# Altium integrated library Motorola Microcontroller 32-Bit.IntLib: 337 symbols (part 14 of 29)
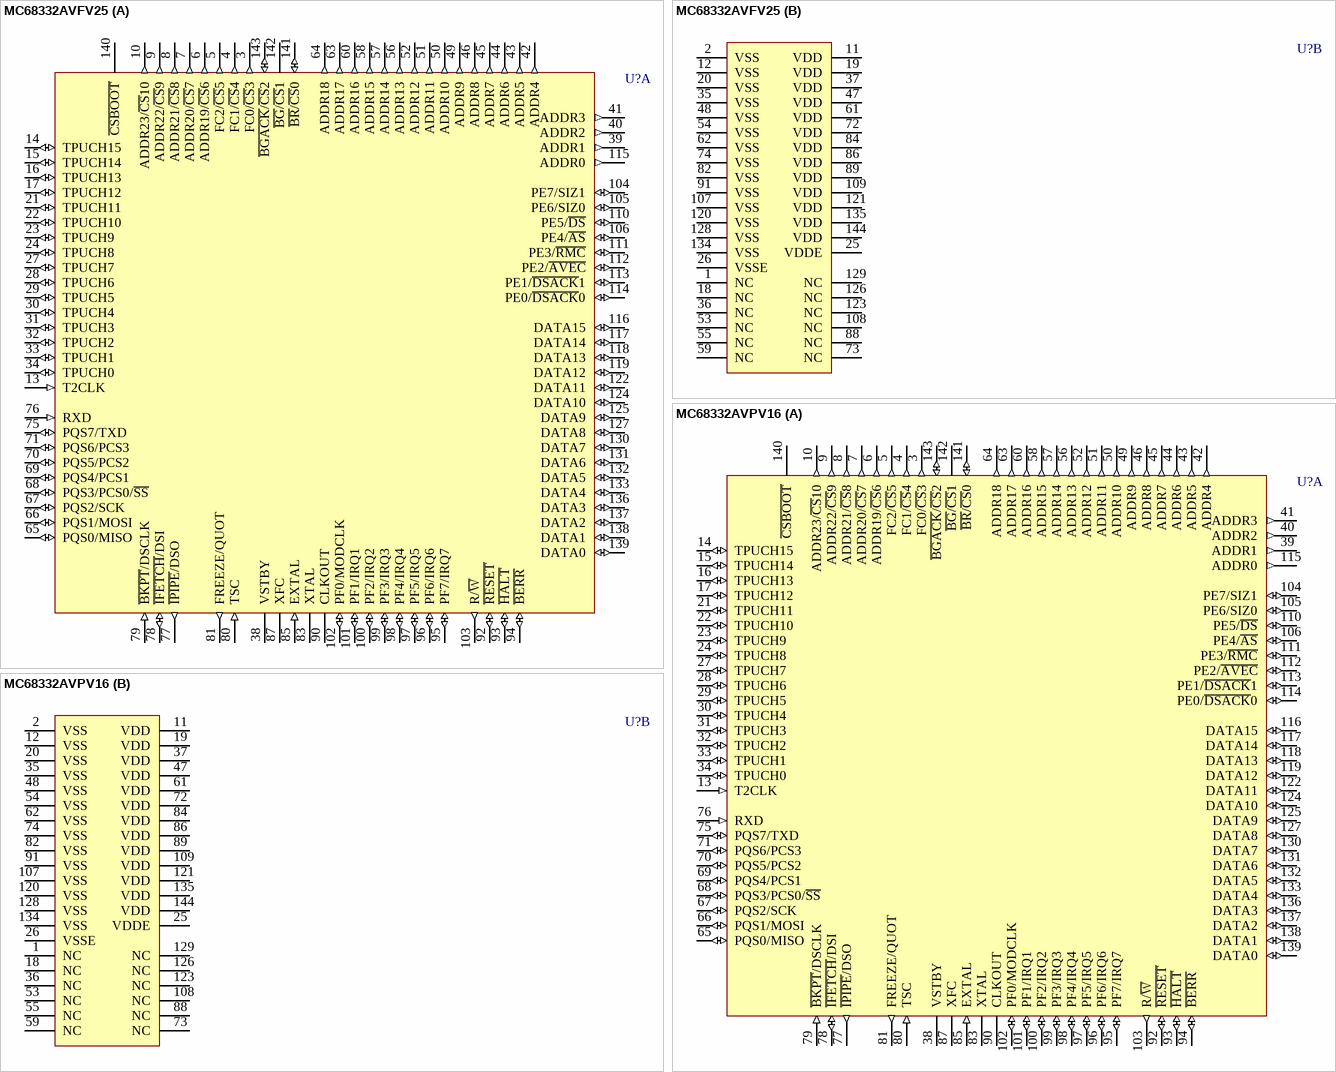
[diagram p253: symbols MC68332AVFV25 to MC68332AVPV16]

## MC68332AVFV25
designator U?
32-Bit Microcontroller; Published: 21-Mar-2003; LatestRevisionDate: 13-Apr-2006; LatestRevisionNote: IPC-7351 Footprint Added.; DatasheetVersion: Jan-1996; PackageVersion: Oct-2000; PackageReference: 863C-01; Publisher: Altium Limited; PackageDescription: 144-Pin Shrink Quad Flat Pack 0.5 mm Pitch; ComponentLink1Description: Manufacturer Link; ComponentLink1URL: http://www.freescale.com/; ComponentLink2Description: Datasheet; ComponentLink2URL: http://www.freescale.com/files/microcontrollers/doc/user_guide/MC68332UM.pdf
footprint 863C-01_N (Shrink QFP, 144-Leads, Body 20x20mm, Pitch 0.5mm, IPC Medium Density)
footprint 863C-01_L (Shrink QFP, 144-Leads, Body 20x20mm, Pitch 0.5mm, IPC High Density)
footprint 863C-01_M (Shrink QFP, 144-Leads, Body 20x20mm, Pitch 0.5mm, IPC Low Density)
3D model MC68332-863C-01 (144-Pin Shrink Quad Flat Pack 0.5 mm Pitch)
part A pins: 3 FC0/~{CS}3 (out), 4 FC1/~{CS}4 (out), 5 FC2/~{CS}5 (out), 6 ADDR19/~{CS}6 (out), 7 ADDR20/~{CS}7 (out), 8 ADDR21/~{CS}8 (out), 9 ADDR22/~{CS}9 (out), 10 ADDR23/~{CS}10 (out), 13 T2CLK (in), 14 TPUCH15 (io), 15 TPUCH14 (io), 16 TPUCH13 (io), 17 TPUCH12 (io), 21 TPUCH11 (io), 22 TPUCH10 (io), 23 TPUCH9 (io), 24 TPUCH8 (io), 27 TPUCH7 (io), 28 TPUCH6 (io), 29 TPUCH5 (io), 30 TPUCH4 (io), 31 TPUCH3 (io), 32 TPUCH2 (io), 33 TPUCH1 (io), 34 TPUCH0 (io), 38 VSTBY (power), 39 ADDR1 (out), 40 ADDR2 (out), 41 ADDR3 (out), 42 ADDR4 (out), 43 ADDR5 (out), 44 ADDR6 (out), 45 ADDR7 (out), 46 ADDR8 (out), 49 ADDR9 (out), 50 ADDR10 (out), 51 ADDR11 (out), 52 ADDR12 (out), 56 ADDR13 (out), 57 ADDR14 (out), 58 ADDR15 (out), 60 ADDR16 (out), 63 ADDR17 (out), 64 ADDR18 (out), 65 PQS0/MISO (io), 66 PQS1/MOSI (io), 67 PQS2/SCK (io), 68 PQS3/PCS0/~{SS} (io), 69 PQS4/PCS1 (io), 70 PQS5/PCS2 (io), 71 PQS6/PCS3 (io), 75 PQS7/TXD (io), 76 RXD (in), 77 ~{IPIPE}/DSO (out), 78 ~{IFETCH}/DSI (io), 79 ~{BKPT}/DSCLK (in), 80 TSC (in), 81 FREEZE/QUOT (out), 83 XTAL, 85 EXTAL (in), 87 XFC, 90 CLKOUT (hiz), 92 ~{RESET} (io), 93 ~{HALT} (io), 94 ~{BERR} (io), 95 PF7/IRQ7 (io), 96 PF6/IRQ6 (io), 97 PF5/IRQ5 (io), 98 PF4/IRQ4 (io), 99 PF3/IRQ3 (io), 100 PF2/IRQ2 (io), 101 PF1/IRQ1 (io), 102 PF0/MODCLK (io), 103 R/~{W} (out), 104 PE7/SIZ1 (io), 105 PE6/SIZ0 (io), 106 PE4/~{AS} (io), 110 PE5/~{DS} (io), 111 PE3/~{RMC} (io), 112 PE2/~{AVEC} (io), 113 PE1/~{DSACK}1 (io), 114 PE0/~{DSACK}0 (io), 115 ADDR0 (out), 116 DATA15 (io), 117 DATA14 (io), 118 DATA13 (io), 119 DATA12 (io), 122 DATA11 (io), 124 DATA10 (io), 125 DATA9 (io), 127 DATA8 (io), 130 DATA7 (io), 131 DATA6 (io), 132 DATA5 (io), 133 DATA4 (io), 136 DATA3 (io), 137 DATA2 (io), 138 DATA1 (io), 139 DATA0 (io), 140 ~{CSBOOT} (hiz), 141 ~{BR}/~{CS}0 (io), 142 ~{BG}/~{CS}1 (hiz), 143 ~{BGACK}/~{CS}2 (io)
part B pins: 1 NC, 2 VSS (power), 11 VDD (power), 12 VSS (power), 18 NC, 19 VDD (power), 20 VSS (power), 25 VDDE (power), 26 VSSE (power), 35 VSS (power), 36 NC, 37 VDD (power), 47 VDD (power), 48 VSS (power), 53 NC, 54 VSS (power), 55 NC, 59 NC, 61 VDD (power), 62 VSS (power), 72 VDD (power), 73 NC, 74 VSS (power), 82 VSS (power), 84 VDD (power), 86 VDD (power), 88 NC, 89 VDD (power), 91 VSS (power), 107 VSS (power), 108 NC, 109 VDD (power), 120 VSS (power), 121 VDD (power), 123 NC, 126 NC, 128 VSS (power), 129 NC, 134 VSS (power), 135 VDD (power), 144 VDD (power)

## MC68332AVPV16
designator U?
32-Bit Microcontroller; Published: 21-Mar-2003; LatestRevisionDate: 13-Apr-2006; LatestRevisionNote: IPC-7351 Footprint Added.; DatasheetVersion: Jan-1996; PackageVersion: 1995; PackageReference: 918-02; Publisher: Altium Limited; PackageDescription: 144-Pin Thin Quad Flat Pack 0.5 mm Pitch; ComponentLink1Description: Manufacturer Link; ComponentLink1URL: http://www.freescale.com/; ComponentLink2Description: Datasheet; ComponentLink2URL: http://www.freescale.com/files/microcontrollers/doc/user_guide/MC68332UM.pdf
footprint 918-02_N (Thin QFP, 144-Leads, Body 20x20mm, Pitch 0.5mm, IPC Medium Density)
footprint 918-02_L (Thin QFP, 144-Leads, Body 20x20mm, Pitch 0.5mm, IPC High Density)
footprint 918-02_M (Thin QFP, 144-Leads, Body 20x20mm, Pitch 0.5mm, IPC Low Density)
3D model MC68332-918 (144-Pin Thin Quad Flat Pack 0.5 mm Pitch)
part A pins: 3 FC0/~{CS}3 (out), 4 FC1/~{CS}4 (out), 5 FC2/~{CS}5 (out), 6 ADDR19/~{CS}6 (out), 7 ADDR20/~{CS}7 (out), 8 ADDR21/~{CS}8 (out), 9 ADDR22/~{CS}9 (out), 10 ADDR23/~{CS}10 (out), 13 T2CLK (in), 14 TPUCH15 (io), 15 TPUCH14 (io), 16 TPUCH13 (io), 17 TPUCH12 (io), 21 TPUCH11 (io), 22 TPUCH10 (io), 23 TPUCH9 (io), 24 TPUCH8 (io), 27 TPUCH7 (io), 28 TPUCH6 (io), 29 TPUCH5 (io), 30 TPUCH4 (io), 31 TPUCH3 (io), 32 TPUCH2 (io), 33 TPUCH1 (io), 34 TPUCH0 (io), 38 VSTBY (power), 39 ADDR1 (out), 40 ADDR2 (out), 41 ADDR3 (out), 42 ADDR4 (out), 43 ADDR5 (out), 44 ADDR6 (out), 45 ADDR7 (out), 46 ADDR8 (out), 49 ADDR9 (out), 50 ADDR10 (out), 51 ADDR11 (out), 52 ADDR12 (out), 56 ADDR13 (out), 57 ADDR14 (out), 58 ADDR15 (out), 60 ADDR16 (out), 63 ADDR17 (out), 64 ADDR18 (out), 65 PQS0/MISO (io), 66 PQS1/MOSI (io), 67 PQS2/SCK (io), 68 PQS3/PCS0/~{SS} (io), 69 PQS4/PCS1 (io), 70 PQS5/PCS2 (io), 71 PQS6/PCS3 (io), 75 PQS7/TXD (io), 76 RXD (in), 77 ~{IPIPE}/DSO (out), 78 ~{IFETCH}/DSI (io), 79 ~{BKPT}/DSCLK (in), 80 TSC (in), 81 FREEZE/QUOT (out), 83 XTAL, 85 EXTAL (in), 87 XFC, 90 CLKOUT (hiz), 92 ~{RESET} (io), 93 ~{HALT} (io), 94 ~{BERR} (io), 95 PF7/IRQ7 (io), 96 PF6/IRQ6 (io), 97 PF5/IRQ5 (io), 98 PF4/IRQ4 (io), 99 PF3/IRQ3 (io), 100 PF2/IRQ2 (io), 101 PF1/IRQ1 (io), 102 PF0/MODCLK (io), 103 R/~{W} (out), 104 PE7/SIZ1 (io), 105 PE6/SIZ0 (io), 106 PE4/~{AS} (io), 110 PE5/~{DS} (io), 111 PE3/~{RMC} (io), 112 PE2/~{AVEC} (io), 113 PE1/~{DSACK}1 (io), 114 PE0/~{DSACK}0 (io), 115 ADDR0 (out), 116 DATA15 (io), 117 DATA14 (io), 118 DATA13 (io), 119 DATA12 (io), 122 DATA11 (io), 124 DATA10 (io), 125 DATA9 (io), 127 DATA8 (io), 130 DATA7 (io), 131 DATA6 (io), 132 DATA5 (io), 133 DATA4 (io), 136 DATA3 (io), 137 DATA2 (io), 138 DATA1 (io), 139 DATA0 (io), 140 ~{CSBOOT} (hiz), 141 ~{BR}/~{CS}0 (io), 142 ~{BG}/~{CS}1 (hiz), 143 ~{BGACK}/~{CS}2 (io)
part B pins: 1 NC, 2 VSS (power), 11 VDD (power), 12 VSS (power), 18 NC, 19 VDD (power), 20 VSS (power), 25 VDDE (power), 26 VSSE (power), 35 VSS (power), 36 NC, 37 VDD (power), 47 VDD (power), 48 VSS (power), 53 NC, 54 VSS (power), 55 NC, 59 NC, 61 VDD (power), 62 VSS (power), 72 VDD (power), 73 NC, 74 VSS (power), 82 VSS (power), 84 VDD (power), 86 VDD (power), 88 NC, 89 VDD (power), 91 VSS (power), 107 VSS (power), 108 NC, 109 VDD (power), 120 VSS (power), 121 VDD (power), 123 NC, 126 NC, 128 VSS (power), 129 NC, 134 VSS (power), 135 VDD (power), 144 VDD (power)

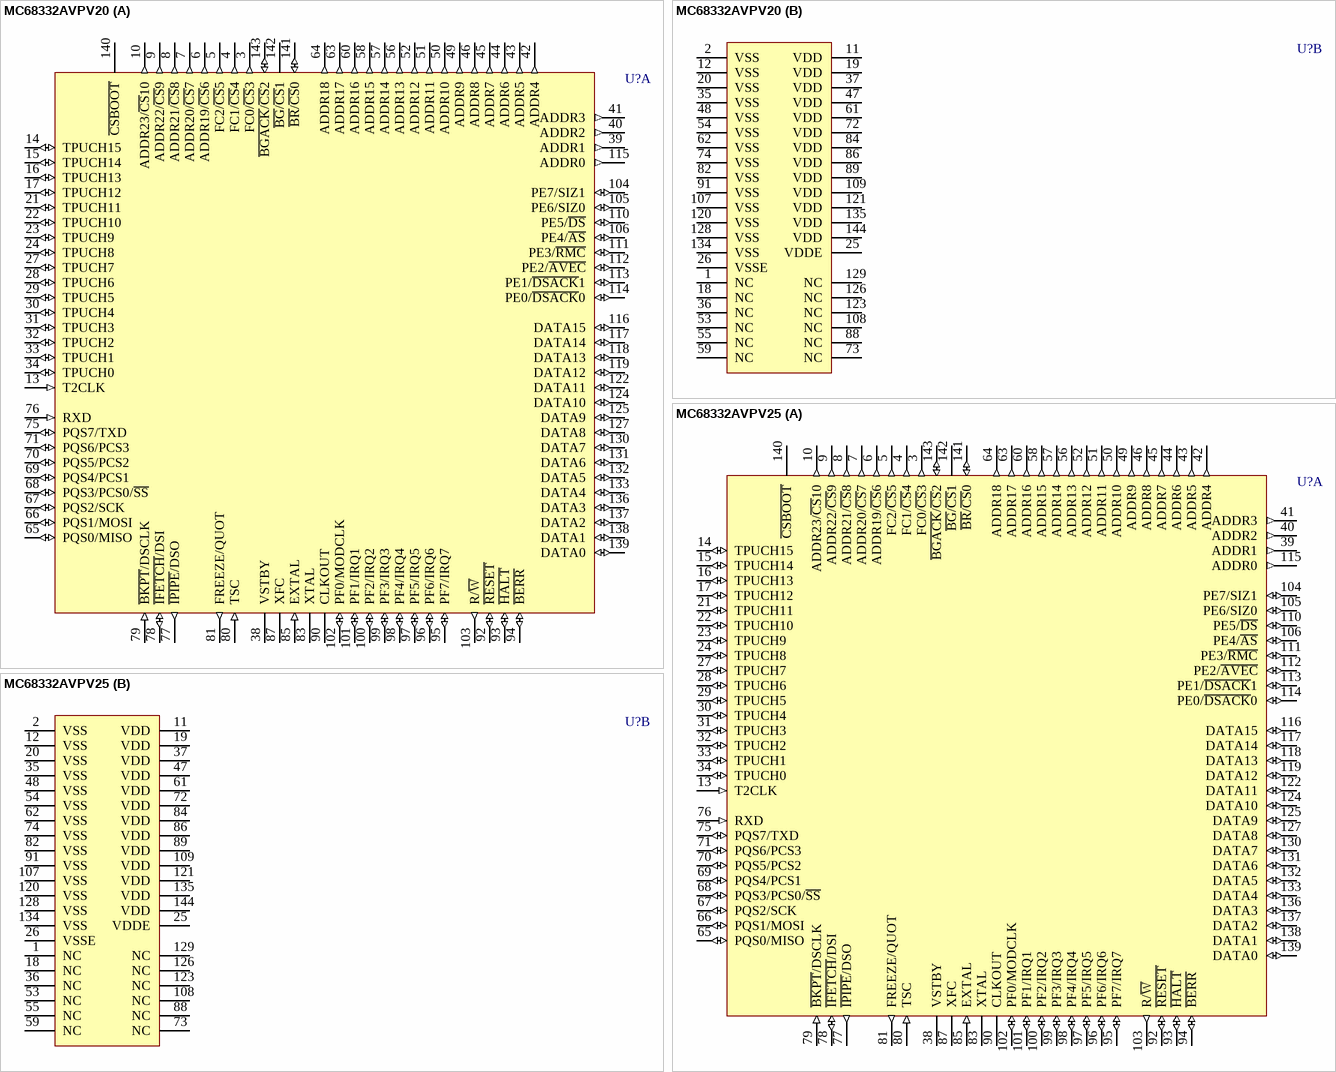
[diagram p116: symbols MC68332AVPV20 to MC68332AVPV25]

## MC68332AVPV20
designator U?
32-Bit Microcontroller; Published: 21-Mar-2003; LatestRevisionDate: 13-Apr-2006; LatestRevisionNote: IPC-7351 Footprint Added.; DatasheetVersion: Jan-1996; PackageVersion: 1995; PackageReference: 918-02; Publisher: Altium Limited; PackageDescription: 144-Pin Thin Quad Flat Pack 0.5 mm Pitch; ComponentLink1Description: Manufacturer Link; ComponentLink1URL: http://www.freescale.com/; ComponentLink2Description: Datasheet; ComponentLink2URL: http://www.freescale.com/files/microcontrollers/doc/user_guide/MC68332UM.pdf
footprint 918-02_N (Thin QFP, 144-Leads, Body 20x20mm, Pitch 0.5mm, IPC Medium Density)
footprint 918-02_L (Thin QFP, 144-Leads, Body 20x20mm, Pitch 0.5mm, IPC High Density)
footprint 918-02_M (Thin QFP, 144-Leads, Body 20x20mm, Pitch 0.5mm, IPC Low Density)
3D model MC68332-918 (144-Pin Thin Quad Flat Pack 0.5 mm Pitch)
part A pins: 3 FC0/~{CS}3 (out), 4 FC1/~{CS}4 (out), 5 FC2/~{CS}5 (out), 6 ADDR19/~{CS}6 (out), 7 ADDR20/~{CS}7 (out), 8 ADDR21/~{CS}8 (out), 9 ADDR22/~{CS}9 (out), 10 ADDR23/~{CS}10 (out), 13 T2CLK (in), 14 TPUCH15 (io), 15 TPUCH14 (io), 16 TPUCH13 (io), 17 TPUCH12 (io), 21 TPUCH11 (io), 22 TPUCH10 (io), 23 TPUCH9 (io), 24 TPUCH8 (io), 27 TPUCH7 (io), 28 TPUCH6 (io), 29 TPUCH5 (io), 30 TPUCH4 (io), 31 TPUCH3 (io), 32 TPUCH2 (io), 33 TPUCH1 (io), 34 TPUCH0 (io), 38 VSTBY (power), 39 ADDR1 (out), 40 ADDR2 (out), 41 ADDR3 (out), 42 ADDR4 (out), 43 ADDR5 (out), 44 ADDR6 (out), 45 ADDR7 (out), 46 ADDR8 (out), 49 ADDR9 (out), 50 ADDR10 (out), 51 ADDR11 (out), 52 ADDR12 (out), 56 ADDR13 (out), 57 ADDR14 (out), 58 ADDR15 (out), 60 ADDR16 (out), 63 ADDR17 (out), 64 ADDR18 (out), 65 PQS0/MISO (io), 66 PQS1/MOSI (io), 67 PQS2/SCK (io), 68 PQS3/PCS0/~{SS} (io), 69 PQS4/PCS1 (io), 70 PQS5/PCS2 (io), 71 PQS6/PCS3 (io), 75 PQS7/TXD (io), 76 RXD (in), 77 ~{IPIPE}/DSO (out), 78 ~{IFETCH}/DSI (io), 79 ~{BKPT}/DSCLK (in), 80 TSC (in), 81 FREEZE/QUOT (out), 83 XTAL, 85 EXTAL (in), 87 XFC, 90 CLKOUT (hiz), 92 ~{RESET} (io), 93 ~{HALT} (io), 94 ~{BERR} (io), 95 PF7/IRQ7 (io), 96 PF6/IRQ6 (io), 97 PF5/IRQ5 (io), 98 PF4/IRQ4 (io), 99 PF3/IRQ3 (io), 100 PF2/IRQ2 (io), 101 PF1/IRQ1 (io), 102 PF0/MODCLK (io), 103 R/~{W} (out), 104 PE7/SIZ1 (io), 105 PE6/SIZ0 (io), 106 PE4/~{AS} (io), 110 PE5/~{DS} (io), 111 PE3/~{RMC} (io), 112 PE2/~{AVEC} (io), 113 PE1/~{DSACK}1 (io), 114 PE0/~{DSACK}0 (io), 115 ADDR0 (out), 116 DATA15 (io), 117 DATA14 (io), 118 DATA13 (io), 119 DATA12 (io), 122 DATA11 (io), 124 DATA10 (io), 125 DATA9 (io), 127 DATA8 (io), 130 DATA7 (io), 131 DATA6 (io), 132 DATA5 (io), 133 DATA4 (io), 136 DATA3 (io), 137 DATA2 (io), 138 DATA1 (io), 139 DATA0 (io), 140 ~{CSBOOT} (hiz), 141 ~{BR}/~{CS}0 (io), 142 ~{BG}/~{CS}1 (hiz), 143 ~{BGACK}/~{CS}2 (io)
part B pins: 1 NC, 2 VSS (power), 11 VDD (power), 12 VSS (power), 18 NC, 19 VDD (power), 20 VSS (power), 25 VDDE (power), 26 VSSE (power), 35 VSS (power), 36 NC, 37 VDD (power), 47 VDD (power), 48 VSS (power), 53 NC, 54 VSS (power), 55 NC, 59 NC, 61 VDD (power), 62 VSS (power), 72 VDD (power), 73 NC, 74 VSS (power), 82 VSS (power), 84 VDD (power), 86 VDD (power), 88 NC, 89 VDD (power), 91 VSS (power), 107 VSS (power), 108 NC, 109 VDD (power), 120 VSS (power), 121 VDD (power), 123 NC, 126 NC, 128 VSS (power), 129 NC, 134 VSS (power), 135 VDD (power), 144 VDD (power)

## MC68332AVPV25
designator U?
32-Bit Microcontroller; Published: 21-Mar-2003; LatestRevisionDate: 13-Apr-2006; LatestRevisionNote: IPC-7351 Footprint Added.; DatasheetVersion: Jan-1996; PackageVersion: 1995; PackageReference: 918-02; Publisher: Altium Limited; PackageDescription: 144-Pin Thin Quad Flat Pack 0.5 mm Pitch; ComponentLink1Description: Manufacturer Link; ComponentLink1URL: http://www.freescale.com/; ComponentLink2Description: Datasheet; ComponentLink2URL: http://www.freescale.com/files/microcontrollers/doc/user_guide/MC68332UM.pdf
footprint 918-02_N (Thin QFP, 144-Leads, Body 20x20mm, Pitch 0.5mm, IPC Medium Density)
footprint 918-02_L (Thin QFP, 144-Leads, Body 20x20mm, Pitch 0.5mm, IPC High Density)
footprint 918-02_M (Thin QFP, 144-Leads, Body 20x20mm, Pitch 0.5mm, IPC Low Density)
3D model MC68332-918 (144-Pin Thin Quad Flat Pack 0.5 mm Pitch)
part A pins: 3 FC0/~{CS}3 (out), 4 FC1/~{CS}4 (out), 5 FC2/~{CS}5 (out), 6 ADDR19/~{CS}6 (out), 7 ADDR20/~{CS}7 (out), 8 ADDR21/~{CS}8 (out), 9 ADDR22/~{CS}9 (out), 10 ADDR23/~{CS}10 (out), 13 T2CLK (in), 14 TPUCH15 (io), 15 TPUCH14 (io), 16 TPUCH13 (io), 17 TPUCH12 (io), 21 TPUCH11 (io), 22 TPUCH10 (io), 23 TPUCH9 (io), 24 TPUCH8 (io), 27 TPUCH7 (io), 28 TPUCH6 (io), 29 TPUCH5 (io), 30 TPUCH4 (io), 31 TPUCH3 (io), 32 TPUCH2 (io), 33 TPUCH1 (io), 34 TPUCH0 (io), 38 VSTBY (power), 39 ADDR1 (out), 40 ADDR2 (out), 41 ADDR3 (out), 42 ADDR4 (out), 43 ADDR5 (out), 44 ADDR6 (out), 45 ADDR7 (out), 46 ADDR8 (out), 49 ADDR9 (out), 50 ADDR10 (out), 51 ADDR11 (out), 52 ADDR12 (out), 56 ADDR13 (out), 57 ADDR14 (out), 58 ADDR15 (out), 60 ADDR16 (out), 63 ADDR17 (out), 64 ADDR18 (out), 65 PQS0/MISO (io), 66 PQS1/MOSI (io), 67 PQS2/SCK (io), 68 PQS3/PCS0/~{SS} (io), 69 PQS4/PCS1 (io), 70 PQS5/PCS2 (io), 71 PQS6/PCS3 (io), 75 PQS7/TXD (io), 76 RXD (in), 77 ~{IPIPE}/DSO (out), 78 ~{IFETCH}/DSI (io), 79 ~{BKPT}/DSCLK (in), 80 TSC (in), 81 FREEZE/QUOT (out), 83 XTAL, 85 EXTAL (in), 87 XFC, 90 CLKOUT (hiz), 92 ~{RESET} (io), 93 ~{HALT} (io), 94 ~{BERR} (io), 95 PF7/IRQ7 (io), 96 PF6/IRQ6 (io), 97 PF5/IRQ5 (io), 98 PF4/IRQ4 (io), 99 PF3/IRQ3 (io), 100 PF2/IRQ2 (io), 101 PF1/IRQ1 (io), 102 PF0/MODCLK (io), 103 R/~{W} (out), 104 PE7/SIZ1 (io), 105 PE6/SIZ0 (io), 106 PE4/~{AS} (io), 110 PE5/~{DS} (io), 111 PE3/~{RMC} (io), 112 PE2/~{AVEC} (io), 113 PE1/~{DSACK}1 (io), 114 PE0/~{DSACK}0 (io), 115 ADDR0 (out), 116 DATA15 (io), 117 DATA14 (io), 118 DATA13 (io), 119 DATA12 (io), 122 DATA11 (io), 124 DATA10 (io), 125 DATA9 (io), 127 DATA8 (io), 130 DATA7 (io), 131 DATA6 (io), 132 DATA5 (io), 133 DATA4 (io), 136 DATA3 (io), 137 DATA2 (io), 138 DATA1 (io), 139 DATA0 (io), 140 ~{CSBOOT} (hiz), 141 ~{BR}/~{CS}0 (io), 142 ~{BG}/~{CS}1 (hiz), 143 ~{BGACK}/~{CS}2 (io)
part B pins: 1 NC, 2 VSS (power), 11 VDD (power), 12 VSS (power), 18 NC, 19 VDD (power), 20 VSS (power), 25 VDDE (power), 26 VSSE (power), 35 VSS (power), 36 NC, 37 VDD (power), 47 VDD (power), 48 VSS (power), 53 NC, 54 VSS (power), 55 NC, 59 NC, 61 VDD (power), 62 VSS (power), 72 VDD (power), 73 NC, 74 VSS (power), 82 VSS (power), 84 VDD (power), 86 VDD (power), 88 NC, 89 VDD (power), 91 VSS (power), 107 VSS (power), 108 NC, 109 VDD (power), 120 VSS (power), 121 VDD (power), 123 NC, 126 NC, 128 VSS (power), 129 NC, 134 VSS (power), 135 VDD (power), 144 VDD (power)

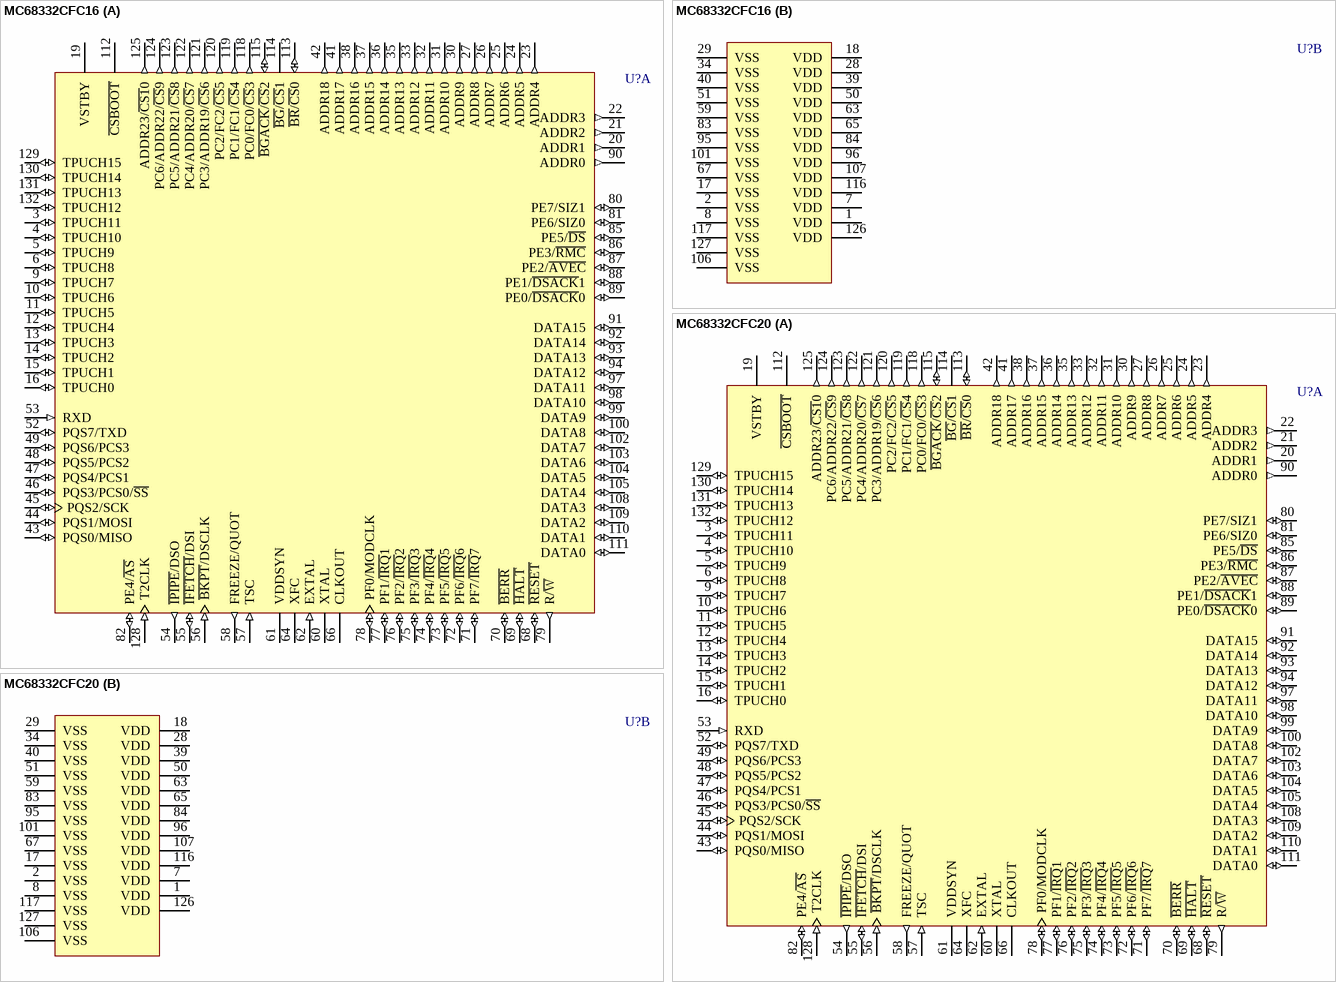
[diagram p117: symbols MC68332CFC16 to MC68332CFC20]

## MC68332CFC16
designator U?
32-Bit Microcontroller; Published: 21-Mar-2003; DatasheetVersion: Jan-1996; PackageVersion: 1997; PackageReference: 831A-01; Publisher: Altium Limited; PackageDescription: PQFP; 132 Leads; Body 24 x 24 mm; Pitch 0.635 mm; ComponentLink1Description: Manufacturer Link; ComponentLink1URL: http://www.freescale.com/; ComponentLink2Description: Datasheet; ComponentLink2URL: http://www.freescale.com/files/microcontrollers/doc/user_guide/MC68332UM.pdf
footprint 831A-01 (PQFP; 132 Leads; Body 24 x 24 mm; Pitch 0.635 mm)
part A pins: 3 TPUCH11 (io), 4 TPUCH10 (io), 5 TPUCH9 (io), 6 TPUCH8 (io), 9 TPUCH7 (io), 10 TPUCH6 (io), 11 TPUCH5 (io), 12 TPUCH4 (io), 13 TPUCH3 (io), 14 TPUCH2 (io), 15 TPUCH1 (io), 16 TPUCH0 (io), 19 VSTBY (power), 20 ADDR1 (out), 21 ADDR2 (out), 22 ADDR3 (out), 23 ADDR4 (out), 24 ADDR5 (out), 25 ADDR6 (out), 26 ADDR7 (out), 27 ADDR8 (out), 30 ADDR9 (out), 31 ADDR10 (out), 32 ADDR11 (out), 33 ADDR12 (out), 35 ADDR13 (out), 36 ADDR14 (out), 37 ADDR15 (out), 38 ADDR16 (out), 41 ADDR17 (out), 42 ADDR18 (out), 43 PQS0/MISO (io), 44 PQS1/MOSI (io), 45 PQS2/SCK (io), 46 PQS3/PCS0/~{SS} (io), 47 PQS4/PCS1 (io), 48 PQS5/PCS2 (io), 49 PQS6/PCS3 (io), 52 PQS7/TXD (io), 53 RXD (in), 54 ~{IPIPE}/DSO (out), 55 ~{IFETCH}/DSI (io), 56 ~{BKPT}/DSCLK (in), 57 TSC (in), 58 FREEZE/QUOT (out), 60 XTAL, 61 VDDSYN (power), 62 EXTAL (in), 64 XFC, 66 CLKOUT (hiz), 68 ~{RESET} (io), 69 ~{HALT} (io), 70 ~{BERR} (io), 71 PF7/~{IRQ}7 (io), 72 PF6/~{IRQ}6 (io), 73 PF5/~{IRQ}5 (io), 74 PF4/~{IRQ}4 (io), 75 PF3/~{IRQ}3 (io), 76 PF2/~{IRQ}2 (io), 77 PF1/~{IRQ}1 (io), 78 PF0/MODCLK (io), 79 R/~{W} (out), 80 PE7/SIZ1 (io), 81 PE6/SIZ0 (io), 82 PE4/~{AS} (io), 85 PE5/~{DS} (io), 86 PE3/~{RMC} (io), 87 PE2/~{AVEC} (io), 88 PE1/~{DSACK}1 (io), 89 PE0/~{DSACK}0 (io), 90 ADDR0 (out), 91 DATA15 (io), 92 DATA14 (io), 93 DATA13 (io), 94 DATA12 (io), 97 DATA11 (io), 98 DATA10 (io), 99 DATA9 (io), 100 DATA8 (io), 102 DATA7 (io), 103 DATA6 (io), 104 DATA5 (io), 105 DATA4 (io), 108 DATA3 (io), 109 DATA2 (io), 110 DATA1 (io), 111 DATA0 (io), 112 ~{CSBOOT} (hiz), 113 ~{BR}/~{CS}0 (io), 114 ~{BG}/~{CS}1 (hiz), 115 ~{BGACK}/~{CS}2 (io), 118 PC0/FC0/~{CS}3 (out), 119 PC1/FC1/~{CS}4 (out), 120 PC2/FC2/~{CS}5 (out), 121 PC3/ADDR19/~{CS}6 (out), 122 PC4/ADDR20/~{CS}7 (out), 123 PC5/ADDR21/~{CS}8 (out), 124 PC6/ADDR22/~{CS}9 (out), 125 ADDR23/~{CS1}0 (out), 128 T2CLK (in), 129 TPUCH15 (io), 130 TPUCH14 (io), 131 TPUCH13 (io), 132 TPUCH12 (io)
part B pins: 1 VDD (power), 2 VSS (power), 7 VDD (power), 8 VSS (power), 17 VSS (power), 18 VDD (power), 28 VDD (power), 29 VSS (power), 34 VSS (power), 39 VDD (power), 40 VSS (power), 50 VDD (power), 51 VSS (power), 59 VSS (power), 63 VDD (power), 65 VDD (power), 67 VSS (power), 83 VSS (power), 84 VDD (power), 95 VSS (power), 96 VDD (power), 101 VSS (power), 106 VSS (power), 107 VDD (power), 116 VDD (power), 117 VSS (power), 126 VDD (power), 127 VSS (power)

## MC68332CFC20
designator U?
32-Bit Microcontroller; Published: 21-Mar-2003; DatasheetVersion: Jan-1996; PackageVersion: 1997; PackageReference: 831A-01; Publisher: Altium Limited; PackageDescription: PQFP; 132 Leads; Body 24 x 24 mm; Pitch 0.635 mm; ComponentLink1Description: Manufacturer Link; ComponentLink1URL: http://www.freescale.com/; ComponentLink2Description: Datasheet; ComponentLink2URL: http://www.freescale.com/files/microcontrollers/doc/user_guide/MC68332UM.pdf
footprint 831A-01 (PQFP; 132 Leads; Body 24 x 24 mm; Pitch 0.635 mm)
part A pins: 3 TPUCH11 (io), 4 TPUCH10 (io), 5 TPUCH9 (io), 6 TPUCH8 (io), 9 TPUCH7 (io), 10 TPUCH6 (io), 11 TPUCH5 (io), 12 TPUCH4 (io), 13 TPUCH3 (io), 14 TPUCH2 (io), 15 TPUCH1 (io), 16 TPUCH0 (io), 19 VSTBY (power), 20 ADDR1 (out), 21 ADDR2 (out), 22 ADDR3 (out), 23 ADDR4 (out), 24 ADDR5 (out), 25 ADDR6 (out), 26 ADDR7 (out), 27 ADDR8 (out), 30 ADDR9 (out), 31 ADDR10 (out), 32 ADDR11 (out), 33 ADDR12 (out), 35 ADDR13 (out), 36 ADDR14 (out), 37 ADDR15 (out), 38 ADDR16 (out), 41 ADDR17 (out), 42 ADDR18 (out), 43 PQS0/MISO (io), 44 PQS1/MOSI (io), 45 PQS2/SCK (io), 46 PQS3/PCS0/~{SS} (io), 47 PQS4/PCS1 (io), 48 PQS5/PCS2 (io), 49 PQS6/PCS3 (io), 52 PQS7/TXD (io), 53 RXD (in), 54 ~{IPIPE}/DSO (out), 55 ~{IFETCH}/DSI (io), 56 ~{BKPT}/DSCLK (in), 57 TSC (in), 58 FREEZE/QUOT (out), 60 XTAL, 61 VDDSYN (power), 62 EXTAL (in), 64 XFC, 66 CLKOUT (hiz), 68 ~{RESET} (io), 69 ~{HALT} (io), 70 ~{BERR} (io), 71 PF7/~{IRQ}7 (io), 72 PF6/~{IRQ}6 (io), 73 PF5/~{IRQ}5 (io), 74 PF4/~{IRQ}4 (io), 75 PF3/~{IRQ}3 (io), 76 PF2/~{IRQ}2 (io), 77 PF1/~{IRQ}1 (io), 78 PF0/MODCLK (io), 79 R/~{W} (out), 80 PE7/SIZ1 (io), 81 PE6/SIZ0 (io), 82 PE4/~{AS} (io), 85 PE5/~{DS} (io), 86 PE3/~{RMC} (io), 87 PE2/~{AVEC} (io), 88 PE1/~{DSACK}1 (io), 89 PE0/~{DSACK}0 (io), 90 ADDR0 (out), 91 DATA15 (io), 92 DATA14 (io), 93 DATA13 (io), 94 DATA12 (io), 97 DATA11 (io), 98 DATA10 (io), 99 DATA9 (io), 100 DATA8 (io), 102 DATA7 (io), 103 DATA6 (io), 104 DATA5 (io), 105 DATA4 (io), 108 DATA3 (io), 109 DATA2 (io), 110 DATA1 (io), 111 DATA0 (io), 112 ~{CSBOOT} (hiz), 113 ~{BR}/~{CS}0 (io), 114 ~{BG}/~{CS}1 (hiz), 115 ~{BGACK}/~{CS}2 (io), 118 PC0/FC0/~{CS}3 (out), 119 PC1/FC1/~{CS}4 (out), 120 PC2/FC2/~{CS}5 (out), 121 PC3/ADDR19/~{CS}6 (out), 122 PC4/ADDR20/~{CS}7 (out), 123 PC5/ADDR21/~{CS}8 (out), 124 PC6/ADDR22/~{CS}9 (out), 125 ADDR23/~{CS1}0 (out), 128 T2CLK (in), 129 TPUCH15 (io), 130 TPUCH14 (io), 131 TPUCH13 (io), 132 TPUCH12 (io)
part B pins: 1 VDD (power), 2 VSS (power), 7 VDD (power), 8 VSS (power), 17 VSS (power), 18 VDD (power), 28 VDD (power), 29 VSS (power), 34 VSS (power), 39 VDD (power), 40 VSS (power), 50 VDD (power), 51 VSS (power), 59 VSS (power), 63 VDD (power), 65 VDD (power), 67 VSS (power), 83 VSS (power), 84 VDD (power), 95 VSS (power), 96 VDD (power), 101 VSS (power), 106 VSS (power), 107 VDD (power), 116 VDD (power), 117 VSS (power), 126 VDD (power), 127 VSS (power)

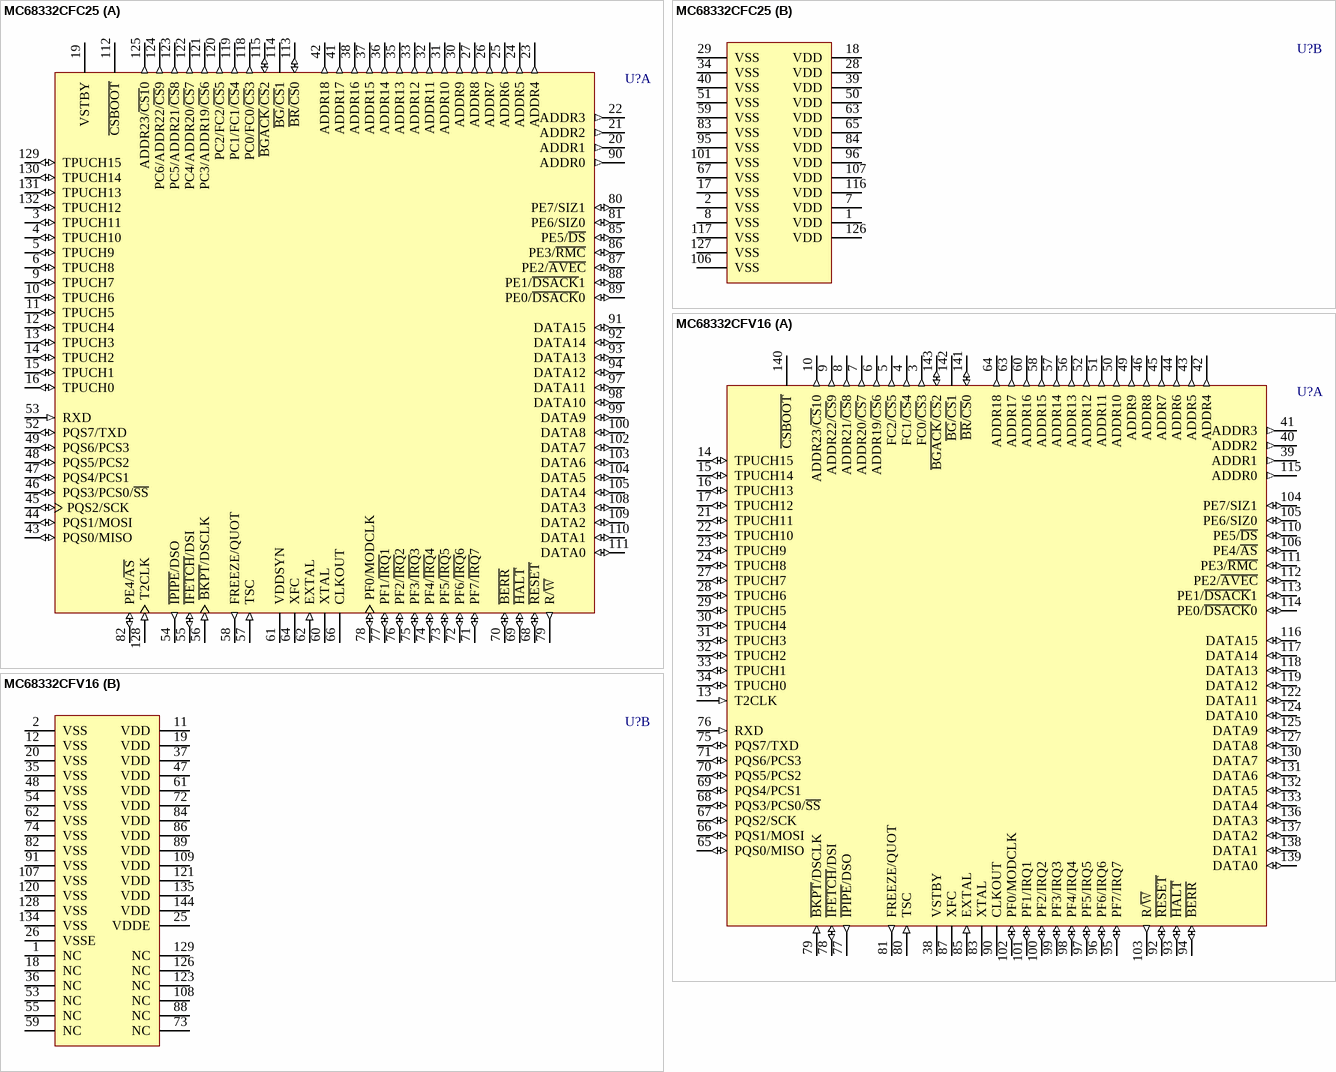
[diagram p118: symbols MC68332CFC25 to MC68332CFV16]

## MC68332CFC25
designator U?
32-Bit Microcontroller; Published: 21-Mar-2003; DatasheetVersion: Jan-1996; PackageVersion: 1997; PackageReference: 831A-01; Publisher: Altium Limited; PackageDescription: PQFP; 132 Leads; Body 24 x 24 mm; Pitch 0.635 mm; ComponentLink1Description: Manufacturer Link; ComponentLink1URL: http://www.freescale.com/; ComponentLink2Description: Datasheet; ComponentLink2URL: http://www.freescale.com/files/microcontrollers/doc/user_guide/MC68332UM.pdf
footprint 831A-01 (PQFP; 132 Leads; Body 24 x 24 mm; Pitch 0.635 mm)
part A pins: 3 TPUCH11 (io), 4 TPUCH10 (io), 5 TPUCH9 (io), 6 TPUCH8 (io), 9 TPUCH7 (io), 10 TPUCH6 (io), 11 TPUCH5 (io), 12 TPUCH4 (io), 13 TPUCH3 (io), 14 TPUCH2 (io), 15 TPUCH1 (io), 16 TPUCH0 (io), 19 VSTBY (power), 20 ADDR1 (out), 21 ADDR2 (out), 22 ADDR3 (out), 23 ADDR4 (out), 24 ADDR5 (out), 25 ADDR6 (out), 26 ADDR7 (out), 27 ADDR8 (out), 30 ADDR9 (out), 31 ADDR10 (out), 32 ADDR11 (out), 33 ADDR12 (out), 35 ADDR13 (out), 36 ADDR14 (out), 37 ADDR15 (out), 38 ADDR16 (out), 41 ADDR17 (out), 42 ADDR18 (out), 43 PQS0/MISO (io), 44 PQS1/MOSI (io), 45 PQS2/SCK (io), 46 PQS3/PCS0/~{SS} (io), 47 PQS4/PCS1 (io), 48 PQS5/PCS2 (io), 49 PQS6/PCS3 (io), 52 PQS7/TXD (io), 53 RXD (in), 54 ~{IPIPE}/DSO (out), 55 ~{IFETCH}/DSI (io), 56 ~{BKPT}/DSCLK (in), 57 TSC (in), 58 FREEZE/QUOT (out), 60 XTAL, 61 VDDSYN (power), 62 EXTAL (in), 64 XFC, 66 CLKOUT (hiz), 68 ~{RESET} (io), 69 ~{HALT} (io), 70 ~{BERR} (io), 71 PF7/~{IRQ}7 (io), 72 PF6/~{IRQ}6 (io), 73 PF5/~{IRQ}5 (io), 74 PF4/~{IRQ}4 (io), 75 PF3/~{IRQ}3 (io), 76 PF2/~{IRQ}2 (io), 77 PF1/~{IRQ}1 (io), 78 PF0/MODCLK (io), 79 R/~{W} (out), 80 PE7/SIZ1 (io), 81 PE6/SIZ0 (io), 82 PE4/~{AS} (io), 85 PE5/~{DS} (io), 86 PE3/~{RMC} (io), 87 PE2/~{AVEC} (io), 88 PE1/~{DSACK}1 (io), 89 PE0/~{DSACK}0 (io), 90 ADDR0 (out), 91 DATA15 (io), 92 DATA14 (io), 93 DATA13 (io), 94 DATA12 (io), 97 DATA11 (io), 98 DATA10 (io), 99 DATA9 (io), 100 DATA8 (io), 102 DATA7 (io), 103 DATA6 (io), 104 DATA5 (io), 105 DATA4 (io), 108 DATA3 (io), 109 DATA2 (io), 110 DATA1 (io), 111 DATA0 (io), 112 ~{CSBOOT} (hiz), 113 ~{BR}/~{CS}0 (io), 114 ~{BG}/~{CS}1 (hiz), 115 ~{BGACK}/~{CS}2 (io), 118 PC0/FC0/~{CS}3 (out), 119 PC1/FC1/~{CS}4 (out), 120 PC2/FC2/~{CS}5 (out), 121 PC3/ADDR19/~{CS}6 (out), 122 PC4/ADDR20/~{CS}7 (out), 123 PC5/ADDR21/~{CS}8 (out), 124 PC6/ADDR22/~{CS}9 (out), 125 ADDR23/~{CS1}0 (out), 128 T2CLK (in), 129 TPUCH15 (io), 130 TPUCH14 (io), 131 TPUCH13 (io), 132 TPUCH12 (io)
part B pins: 1 VDD (power), 2 VSS (power), 7 VDD (power), 8 VSS (power), 17 VSS (power), 18 VDD (power), 28 VDD (power), 29 VSS (power), 34 VSS (power), 39 VDD (power), 40 VSS (power), 50 VDD (power), 51 VSS (power), 59 VSS (power), 63 VDD (power), 65 VDD (power), 67 VSS (power), 83 VSS (power), 84 VDD (power), 95 VSS (power), 96 VDD (power), 101 VSS (power), 106 VSS (power), 107 VDD (power), 116 VDD (power), 117 VSS (power), 126 VDD (power), 127 VSS (power)

## MC68332CFV16
designator U?
32-Bit Microcontroller; Published: 21-Mar-2003; LatestRevisionDate: 13-Apr-2006; LatestRevisionNote: IPC-7351 Footprint Added.; DatasheetVersion: Jan-1996; PackageVersion: Oct-2000; PackageReference: 863C-01; Publisher: Altium Limited; PackageDescription: 144-Pin Shrink Quad Flat Pack 0.5 mm Pitch; ComponentLink1Description: Manufacturer Link; ComponentLink1URL: http://www.freescale.com/; ComponentLink2Description: Datasheet; ComponentLink2URL: http://www.freescale.com/files/microcontrollers/doc/user_guide/MC68332UM.pdf
footprint 863C-01_N (Shrink QFP, 144-Leads, Body 20x20mm, Pitch 0.5mm, IPC Medium Density)
footprint 863C-01_L (Shrink QFP, 144-Leads, Body 20x20mm, Pitch 0.5mm, IPC High Density)
footprint 863C-01_M (Shrink QFP, 144-Leads, Body 20x20mm, Pitch 0.5mm, IPC Low Density)
3D model MC68332-863C-01 (144-Pin Shrink Quad Flat Pack 0.5 mm Pitch)
part A pins: 3 FC0/~{CS}3 (out), 4 FC1/~{CS}4 (out), 5 FC2/~{CS}5 (out), 6 ADDR19/~{CS}6 (out), 7 ADDR20/~{CS}7 (out), 8 ADDR21/~{CS}8 (out), 9 ADDR22/~{CS}9 (out), 10 ADDR23/~{CS}10 (out), 13 T2CLK (in), 14 TPUCH15 (io), 15 TPUCH14 (io), 16 TPUCH13 (io), 17 TPUCH12 (io), 21 TPUCH11 (io), 22 TPUCH10 (io), 23 TPUCH9 (io), 24 TPUCH8 (io), 27 TPUCH7 (io), 28 TPUCH6 (io), 29 TPUCH5 (io), 30 TPUCH4 (io), 31 TPUCH3 (io), 32 TPUCH2 (io), 33 TPUCH1 (io), 34 TPUCH0 (io), 38 VSTBY (power), 39 ADDR1 (out), 40 ADDR2 (out), 41 ADDR3 (out), 42 ADDR4 (out), 43 ADDR5 (out), 44 ADDR6 (out), 45 ADDR7 (out), 46 ADDR8 (out), 49 ADDR9 (out), 50 ADDR10 (out), 51 ADDR11 (out), 52 ADDR12 (out), 56 ADDR13 (out), 57 ADDR14 (out), 58 ADDR15 (out), 60 ADDR16 (out), 63 ADDR17 (out), 64 ADDR18 (out), 65 PQS0/MISO (io), 66 PQS1/MOSI (io), 67 PQS2/SCK (io), 68 PQS3/PCS0/~{SS} (io), 69 PQS4/PCS1 (io), 70 PQS5/PCS2 (io), 71 PQS6/PCS3 (io), 75 PQS7/TXD (io), 76 RXD (in), 77 ~{IPIPE}/DSO (out), 78 ~{IFETCH}/DSI (io), 79 ~{BKPT}/DSCLK (in), 80 TSC (in), 81 FREEZE/QUOT (out), 83 XTAL, 85 EXTAL (in), 87 XFC, 90 CLKOUT (hiz), 92 ~{RESET} (io), 93 ~{HALT} (io), 94 ~{BERR} (io), 95 PF7/IRQ7 (io), 96 PF6/IRQ6 (io), 97 PF5/IRQ5 (io), 98 PF4/IRQ4 (io), 99 PF3/IRQ3 (io), 100 PF2/IRQ2 (io), 101 PF1/IRQ1 (io), 102 PF0/MODCLK (io), 103 R/~{W} (out), 104 PE7/SIZ1 (io), 105 PE6/SIZ0 (io), 106 PE4/~{AS} (io), 110 PE5/~{DS} (io), 111 PE3/~{RMC} (io), 112 PE2/~{AVEC} (io), 113 PE1/~{DSACK}1 (io), 114 PE0/~{DSACK}0 (io), 115 ADDR0 (out), 116 DATA15 (io), 117 DATA14 (io), 118 DATA13 (io), 119 DATA12 (io), 122 DATA11 (io), 124 DATA10 (io), 125 DATA9 (io), 127 DATA8 (io), 130 DATA7 (io), 131 DATA6 (io), 132 DATA5 (io), 133 DATA4 (io), 136 DATA3 (io), 137 DATA2 (io), 138 DATA1 (io), 139 DATA0 (io), 140 ~{CSBOOT} (hiz), 141 ~{BR}/~{CS}0 (io), 142 ~{BG}/~{CS}1 (hiz), 143 ~{BGACK}/~{CS}2 (io)
part B pins: 1 NC, 2 VSS (power), 11 VDD (power), 12 VSS (power), 18 NC, 19 VDD (power), 20 VSS (power), 25 VDDE (power), 26 VSSE (power), 35 VSS (power), 36 NC, 37 VDD (power), 47 VDD (power), 48 VSS (power), 53 NC, 54 VSS (power), 55 NC, 59 NC, 61 VDD (power), 62 VSS (power), 72 VDD (power), 73 NC, 74 VSS (power), 82 VSS (power), 84 VDD (power), 86 VDD (power), 88 NC, 89 VDD (power), 91 VSS (power), 107 VSS (power), 108 NC, 109 VDD (power), 120 VSS (power), 121 VDD (power), 123 NC, 126 NC, 128 VSS (power), 129 NC, 134 VSS (power), 135 VDD (power), 144 VDD (power)

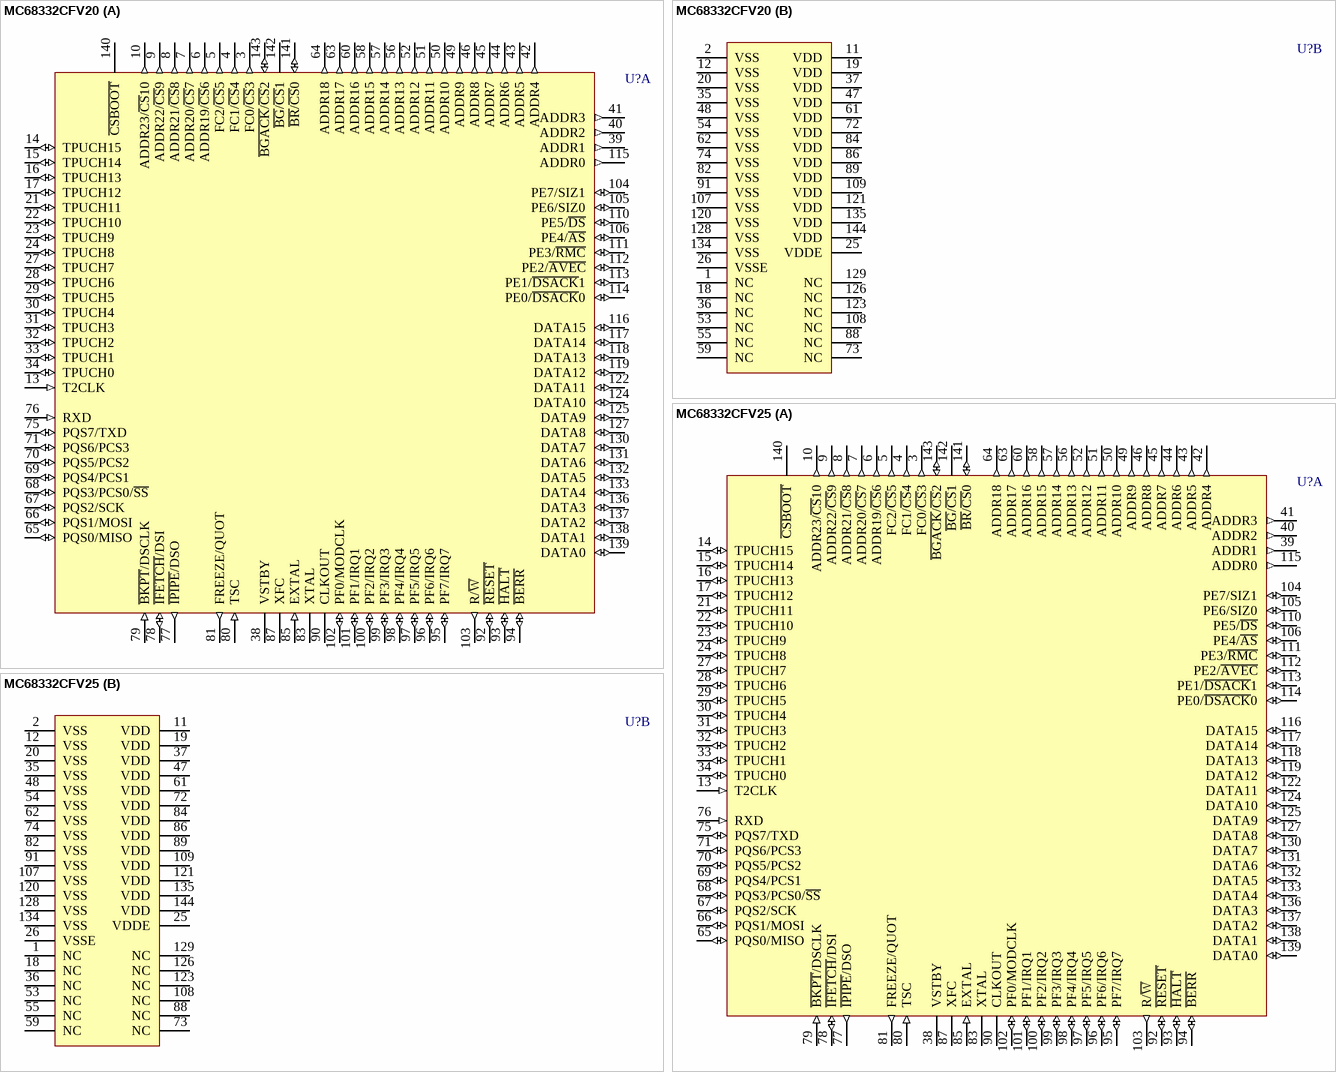
[diagram p119: symbols MC68332CFV20 to MC68332CFV25]

## MC68332CFV20
designator U?
32-Bit Microcontroller; Published: 21-Mar-2003; LatestRevisionDate: 13-Apr-2006; LatestRevisionNote: IPC-7351 Footprint Added.; DatasheetVersion: Jan-1996; PackageVersion: Oct-2000; PackageReference: 863C-01; Publisher: Altium Limited; PackageDescription: 144-Pin Shrink Quad Flat Pack 0.5 mm Pitch; ComponentLink1Description: Manufacturer Link; ComponentLink1URL: http://www.freescale.com/; ComponentLink2Description: Datasheet; ComponentLink2URL: http://www.freescale.com/files/microcontrollers/doc/user_guide/MC68332UM.pdf
footprint 863C-01_N (Shrink QFP, 144-Leads, Body 20x20mm, Pitch 0.5mm, IPC Medium Density)
footprint 863C-01_L (Shrink QFP, 144-Leads, Body 20x20mm, Pitch 0.5mm, IPC High Density)
footprint 863C-01_M (Shrink QFP, 144-Leads, Body 20x20mm, Pitch 0.5mm, IPC Low Density)
3D model MC68332-863C-01 (144-Pin Shrink Quad Flat Pack 0.5 mm Pitch)
part A pins: 3 FC0/~{CS}3 (out), 4 FC1/~{CS}4 (out), 5 FC2/~{CS}5 (out), 6 ADDR19/~{CS}6 (out), 7 ADDR20/~{CS}7 (out), 8 ADDR21/~{CS}8 (out), 9 ADDR22/~{CS}9 (out), 10 ADDR23/~{CS}10 (out), 13 T2CLK (in), 14 TPUCH15 (io), 15 TPUCH14 (io), 16 TPUCH13 (io), 17 TPUCH12 (io), 21 TPUCH11 (io), 22 TPUCH10 (io), 23 TPUCH9 (io), 24 TPUCH8 (io), 27 TPUCH7 (io), 28 TPUCH6 (io), 29 TPUCH5 (io), 30 TPUCH4 (io), 31 TPUCH3 (io), 32 TPUCH2 (io), 33 TPUCH1 (io), 34 TPUCH0 (io), 38 VSTBY (power), 39 ADDR1 (out), 40 ADDR2 (out), 41 ADDR3 (out), 42 ADDR4 (out), 43 ADDR5 (out), 44 ADDR6 (out), 45 ADDR7 (out), 46 ADDR8 (out), 49 ADDR9 (out), 50 ADDR10 (out), 51 ADDR11 (out), 52 ADDR12 (out), 56 ADDR13 (out), 57 ADDR14 (out), 58 ADDR15 (out), 60 ADDR16 (out), 63 ADDR17 (out), 64 ADDR18 (out), 65 PQS0/MISO (io), 66 PQS1/MOSI (io), 67 PQS2/SCK (io), 68 PQS3/PCS0/~{SS} (io), 69 PQS4/PCS1 (io), 70 PQS5/PCS2 (io), 71 PQS6/PCS3 (io), 75 PQS7/TXD (io), 76 RXD (in), 77 ~{IPIPE}/DSO (out), 78 ~{IFETCH}/DSI (io), 79 ~{BKPT}/DSCLK (in), 80 TSC (in), 81 FREEZE/QUOT (out), 83 XTAL, 85 EXTAL (in), 87 XFC, 90 CLKOUT (hiz), 92 ~{RESET} (io), 93 ~{HALT} (io), 94 ~{BERR} (io), 95 PF7/IRQ7 (io), 96 PF6/IRQ6 (io), 97 PF5/IRQ5 (io), 98 PF4/IRQ4 (io), 99 PF3/IRQ3 (io), 100 PF2/IRQ2 (io), 101 PF1/IRQ1 (io), 102 PF0/MODCLK (io), 103 R/~{W} (out), 104 PE7/SIZ1 (io), 105 PE6/SIZ0 (io), 106 PE4/~{AS} (io), 110 PE5/~{DS} (io), 111 PE3/~{RMC} (io), 112 PE2/~{AVEC} (io), 113 PE1/~{DSACK}1 (io), 114 PE0/~{DSACK}0 (io), 115 ADDR0 (out), 116 DATA15 (io), 117 DATA14 (io), 118 DATA13 (io), 119 DATA12 (io), 122 DATA11 (io), 124 DATA10 (io), 125 DATA9 (io), 127 DATA8 (io), 130 DATA7 (io), 131 DATA6 (io), 132 DATA5 (io), 133 DATA4 (io), 136 DATA3 (io), 137 DATA2 (io), 138 DATA1 (io), 139 DATA0 (io), 140 ~{CSBOOT} (hiz), 141 ~{BR}/~{CS}0 (io), 142 ~{BG}/~{CS}1 (hiz), 143 ~{BGACK}/~{CS}2 (io)
part B pins: 1 NC, 2 VSS (power), 11 VDD (power), 12 VSS (power), 18 NC, 19 VDD (power), 20 VSS (power), 25 VDDE (power), 26 VSSE (power), 35 VSS (power), 36 NC, 37 VDD (power), 47 VDD (power), 48 VSS (power), 53 NC, 54 VSS (power), 55 NC, 59 NC, 61 VDD (power), 62 VSS (power), 72 VDD (power), 73 NC, 74 VSS (power), 82 VSS (power), 84 VDD (power), 86 VDD (power), 88 NC, 89 VDD (power), 91 VSS (power), 107 VSS (power), 108 NC, 109 VDD (power), 120 VSS (power), 121 VDD (power), 123 NC, 126 NC, 128 VSS (power), 129 NC, 134 VSS (power), 135 VDD (power), 144 VDD (power)

## MC68332CFV25
designator U?
32-Bit Microcontroller; Published: 21-Mar-2003; LatestRevisionDate: 13-Apr-2006; LatestRevisionNote: IPC-7351 Footprint Added.; DatasheetVersion: Jan-1996; PackageVersion: Oct-2000; PackageReference: 863C-01; Publisher: Altium Limited; PackageDescription: 144-Pin Shrink Quad Flat Pack 0.5 mm Pitch; ComponentLink1Description: Manufacturer Link; ComponentLink1URL: http://www.freescale.com/; ComponentLink2Description: Datasheet; ComponentLink2URL: http://www.freescale.com/files/microcontrollers/doc/user_guide/MC68332UM.pdf
footprint 863C-01_N (Shrink QFP, 144-Leads, Body 20x20mm, Pitch 0.5mm, IPC Medium Density)
footprint 863C-01_L (Shrink QFP, 144-Leads, Body 20x20mm, Pitch 0.5mm, IPC High Density)
footprint 863C-01_M (Shrink QFP, 144-Leads, Body 20x20mm, Pitch 0.5mm, IPC Low Density)
3D model MC68332-863C-01 (144-Pin Shrink Quad Flat Pack 0.5 mm Pitch)
part A pins: 3 FC0/~{CS}3 (out), 4 FC1/~{CS}4 (out), 5 FC2/~{CS}5 (out), 6 ADDR19/~{CS}6 (out), 7 ADDR20/~{CS}7 (out), 8 ADDR21/~{CS}8 (out), 9 ADDR22/~{CS}9 (out), 10 ADDR23/~{CS}10 (out), 13 T2CLK (in), 14 TPUCH15 (io), 15 TPUCH14 (io), 16 TPUCH13 (io), 17 TPUCH12 (io), 21 TPUCH11 (io), 22 TPUCH10 (io), 23 TPUCH9 (io), 24 TPUCH8 (io), 27 TPUCH7 (io), 28 TPUCH6 (io), 29 TPUCH5 (io), 30 TPUCH4 (io), 31 TPUCH3 (io), 32 TPUCH2 (io), 33 TPUCH1 (io), 34 TPUCH0 (io), 38 VSTBY (power), 39 ADDR1 (out), 40 ADDR2 (out), 41 ADDR3 (out), 42 ADDR4 (out), 43 ADDR5 (out), 44 ADDR6 (out), 45 ADDR7 (out), 46 ADDR8 (out), 49 ADDR9 (out), 50 ADDR10 (out), 51 ADDR11 (out), 52 ADDR12 (out), 56 ADDR13 (out), 57 ADDR14 (out), 58 ADDR15 (out), 60 ADDR16 (out), 63 ADDR17 (out), 64 ADDR18 (out), 65 PQS0/MISO (io), 66 PQS1/MOSI (io), 67 PQS2/SCK (io), 68 PQS3/PCS0/~{SS} (io), 69 PQS4/PCS1 (io), 70 PQS5/PCS2 (io), 71 PQS6/PCS3 (io), 75 PQS7/TXD (io), 76 RXD (in), 77 ~{IPIPE}/DSO (out), 78 ~{IFETCH}/DSI (io), 79 ~{BKPT}/DSCLK (in), 80 TSC (in), 81 FREEZE/QUOT (out), 83 XTAL, 85 EXTAL (in), 87 XFC, 90 CLKOUT (hiz), 92 ~{RESET} (io), 93 ~{HALT} (io), 94 ~{BERR} (io), 95 PF7/IRQ7 (io), 96 PF6/IRQ6 (io), 97 PF5/IRQ5 (io), 98 PF4/IRQ4 (io), 99 PF3/IRQ3 (io), 100 PF2/IRQ2 (io), 101 PF1/IRQ1 (io), 102 PF0/MODCLK (io), 103 R/~{W} (out), 104 PE7/SIZ1 (io), 105 PE6/SIZ0 (io), 106 PE4/~{AS} (io), 110 PE5/~{DS} (io), 111 PE3/~{RMC} (io), 112 PE2/~{AVEC} (io), 113 PE1/~{DSACK}1 (io), 114 PE0/~{DSACK}0 (io), 115 ADDR0 (out), 116 DATA15 (io), 117 DATA14 (io), 118 DATA13 (io), 119 DATA12 (io), 122 DATA11 (io), 124 DATA10 (io), 125 DATA9 (io), 127 DATA8 (io), 130 DATA7 (io), 131 DATA6 (io), 132 DATA5 (io), 133 DATA4 (io), 136 DATA3 (io), 137 DATA2 (io), 138 DATA1 (io), 139 DATA0 (io), 140 ~{CSBOOT} (hiz), 141 ~{BR}/~{CS}0 (io), 142 ~{BG}/~{CS}1 (hiz), 143 ~{BGACK}/~{CS}2 (io)
part B pins: 1 NC, 2 VSS (power), 11 VDD (power), 12 VSS (power), 18 NC, 19 VDD (power), 20 VSS (power), 25 VDDE (power), 26 VSSE (power), 35 VSS (power), 36 NC, 37 VDD (power), 47 VDD (power), 48 VSS (power), 53 NC, 54 VSS (power), 55 NC, 59 NC, 61 VDD (power), 62 VSS (power), 72 VDD (power), 73 NC, 74 VSS (power), 82 VSS (power), 84 VDD (power), 86 VDD (power), 88 NC, 89 VDD (power), 91 VSS (power), 107 VSS (power), 108 NC, 109 VDD (power), 120 VSS (power), 121 VDD (power), 123 NC, 126 NC, 128 VSS (power), 129 NC, 134 VSS (power), 135 VDD (power), 144 VDD (power)

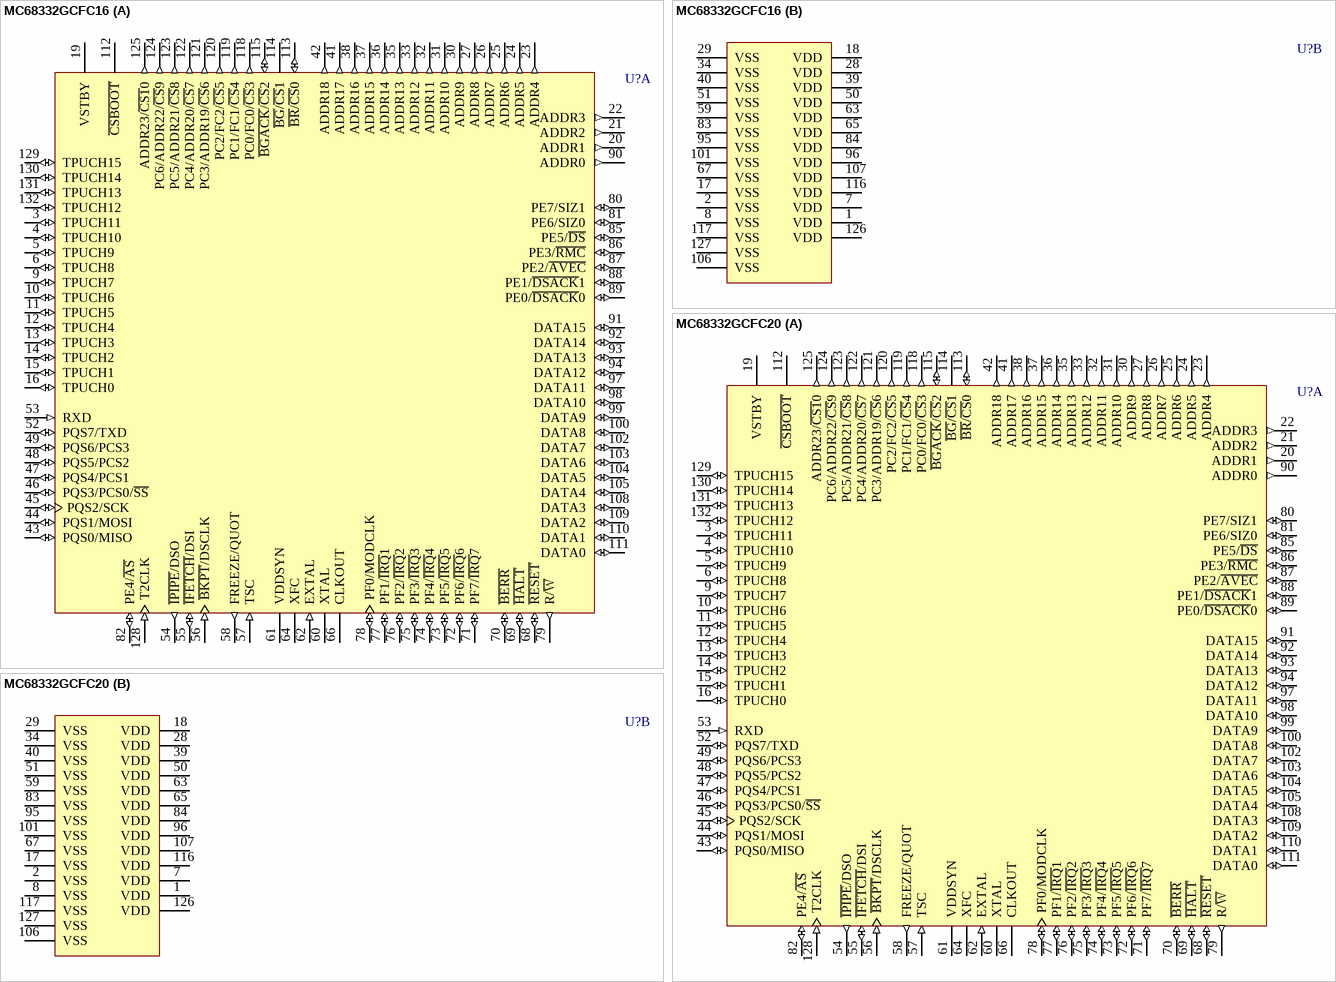
[diagram p120: symbols MC68332GCFC16 to MC68332GCFC20]

## MC68332GCFC16
designator U?
32-Bit Microcontroller; Published: 21-Mar-2003; DatasheetVersion: Jan-1996; PackageVersion: 1997; PackageReference: 831A-01; Publisher: Altium Limited; PackageDescription: PQFP; 132 Leads; Body 24 x 24 mm; Pitch 0.635 mm; ComponentLink1Description: Manufacturer Link; ComponentLink1URL: http://www.freescale.com/; ComponentLink2Description: Datasheet; ComponentLink2URL: http://www.freescale.com/files/microcontrollers/doc/user_guide/MC68332UM.pdf
footprint 831A-01 (PQFP; 132 Leads; Body 24 x 24 mm; Pitch 0.635 mm)
part A pins: 3 TPUCH11 (io), 4 TPUCH10 (io), 5 TPUCH9 (io), 6 TPUCH8 (io), 9 TPUCH7 (io), 10 TPUCH6 (io), 11 TPUCH5 (io), 12 TPUCH4 (io), 13 TPUCH3 (io), 14 TPUCH2 (io), 15 TPUCH1 (io), 16 TPUCH0 (io), 19 VSTBY (power), 20 ADDR1 (out), 21 ADDR2 (out), 22 ADDR3 (out), 23 ADDR4 (out), 24 ADDR5 (out), 25 ADDR6 (out), 26 ADDR7 (out), 27 ADDR8 (out), 30 ADDR9 (out), 31 ADDR10 (out), 32 ADDR11 (out), 33 ADDR12 (out), 35 ADDR13 (out), 36 ADDR14 (out), 37 ADDR15 (out), 38 ADDR16 (out), 41 ADDR17 (out), 42 ADDR18 (out), 43 PQS0/MISO (io), 44 PQS1/MOSI (io), 45 PQS2/SCK (io), 46 PQS3/PCS0/~{SS} (io), 47 PQS4/PCS1 (io), 48 PQS5/PCS2 (io), 49 PQS6/PCS3 (io), 52 PQS7/TXD (io), 53 RXD (in), 54 ~{IPIPE}/DSO (out), 55 ~{IFETCH}/DSI (io), 56 ~{BKPT}/DSCLK (in), 57 TSC (in), 58 FREEZE/QUOT (out), 60 XTAL, 61 VDDSYN (power), 62 EXTAL (in), 64 XFC, 66 CLKOUT (hiz), 68 ~{RESET} (io), 69 ~{HALT} (io), 70 ~{BERR} (io), 71 PF7/~{IRQ}7 (io), 72 PF6/~{IRQ}6 (io), 73 PF5/~{IRQ}5 (io), 74 PF4/~{IRQ}4 (io), 75 PF3/~{IRQ}3 (io), 76 PF2/~{IRQ}2 (io), 77 PF1/~{IRQ}1 (io), 78 PF0/MODCLK (io), 79 R/~{W} (out), 80 PE7/SIZ1 (io), 81 PE6/SIZ0 (io), 82 PE4/~{AS} (io), 85 PE5/~{DS} (io), 86 PE3/~{RMC} (io), 87 PE2/~{AVEC} (io), 88 PE1/~{DSACK}1 (io), 89 PE0/~{DSACK}0 (io), 90 ADDR0 (out), 91 DATA15 (io), 92 DATA14 (io), 93 DATA13 (io), 94 DATA12 (io), 97 DATA11 (io), 98 DATA10 (io), 99 DATA9 (io), 100 DATA8 (io), 102 DATA7 (io), 103 DATA6 (io), 104 DATA5 (io), 105 DATA4 (io), 108 DATA3 (io), 109 DATA2 (io), 110 DATA1 (io), 111 DATA0 (io), 112 ~{CSBOOT} (hiz), 113 ~{BR}/~{CS}0 (io), 114 ~{BG}/~{CS}1 (hiz), 115 ~{BGACK}/~{CS}2 (io), 118 PC0/FC0/~{CS}3 (out), 119 PC1/FC1/~{CS}4 (out), 120 PC2/FC2/~{CS}5 (out), 121 PC3/ADDR19/~{CS}6 (out), 122 PC4/ADDR20/~{CS}7 (out), 123 PC5/ADDR21/~{CS}8 (out), 124 PC6/ADDR22/~{CS}9 (out), 125 ADDR23/~{CS1}0 (out), 128 T2CLK (in), 129 TPUCH15 (io), 130 TPUCH14 (io), 131 TPUCH13 (io), 132 TPUCH12 (io)
part B pins: 1 VDD (power), 2 VSS (power), 7 VDD (power), 8 VSS (power), 17 VSS (power), 18 VDD (power), 28 VDD (power), 29 VSS (power), 34 VSS (power), 39 VDD (power), 40 VSS (power), 50 VDD (power), 51 VSS (power), 59 VSS (power), 63 VDD (power), 65 VDD (power), 67 VSS (power), 83 VSS (power), 84 VDD (power), 95 VSS (power), 96 VDD (power), 101 VSS (power), 106 VSS (power), 107 VDD (power), 116 VDD (power), 117 VSS (power), 126 VDD (power), 127 VSS (power)

## MC68332GCFC20
designator U?
32-Bit Microcontroller; Published: 21-Mar-2003; DatasheetVersion: Jan-1996; PackageVersion: 1997; PackageReference: 831A-01; Publisher: Altium Limited; PackageDescription: PQFP; 132 Leads; Body 24 x 24 mm; Pitch 0.635 mm; ComponentLink1Description: Manufacturer Link; ComponentLink1URL: http://www.freescale.com/; ComponentLink2Description: Datasheet; ComponentLink2URL: http://www.freescale.com/files/microcontrollers/doc/user_guide/MC68332UM.pdf
footprint 831A-01 (PQFP; 132 Leads; Body 24 x 24 mm; Pitch 0.635 mm)
part A pins: 3 TPUCH11 (io), 4 TPUCH10 (io), 5 TPUCH9 (io), 6 TPUCH8 (io), 9 TPUCH7 (io), 10 TPUCH6 (io), 11 TPUCH5 (io), 12 TPUCH4 (io), 13 TPUCH3 (io), 14 TPUCH2 (io), 15 TPUCH1 (io), 16 TPUCH0 (io), 19 VSTBY (power), 20 ADDR1 (out), 21 ADDR2 (out), 22 ADDR3 (out), 23 ADDR4 (out), 24 ADDR5 (out), 25 ADDR6 (out), 26 ADDR7 (out), 27 ADDR8 (out), 30 ADDR9 (out), 31 ADDR10 (out), 32 ADDR11 (out), 33 ADDR12 (out), 35 ADDR13 (out), 36 ADDR14 (out), 37 ADDR15 (out), 38 ADDR16 (out), 41 ADDR17 (out), 42 ADDR18 (out), 43 PQS0/MISO (io), 44 PQS1/MOSI (io), 45 PQS2/SCK (io), 46 PQS3/PCS0/~{SS} (io), 47 PQS4/PCS1 (io), 48 PQS5/PCS2 (io), 49 PQS6/PCS3 (io), 52 PQS7/TXD (io), 53 RXD (in), 54 ~{IPIPE}/DSO (out), 55 ~{IFETCH}/DSI (io), 56 ~{BKPT}/DSCLK (in), 57 TSC (in), 58 FREEZE/QUOT (out), 60 XTAL, 61 VDDSYN (power), 62 EXTAL (in), 64 XFC, 66 CLKOUT (hiz), 68 ~{RESET} (io), 69 ~{HALT} (io), 70 ~{BERR} (io), 71 PF7/~{IRQ}7 (io), 72 PF6/~{IRQ}6 (io), 73 PF5/~{IRQ}5 (io), 74 PF4/~{IRQ}4 (io), 75 PF3/~{IRQ}3 (io), 76 PF2/~{IRQ}2 (io), 77 PF1/~{IRQ}1 (io), 78 PF0/MODCLK (io), 79 R/~{W} (out), 80 PE7/SIZ1 (io), 81 PE6/SIZ0 (io), 82 PE4/~{AS} (io), 85 PE5/~{DS} (io), 86 PE3/~{RMC} (io), 87 PE2/~{AVEC} (io), 88 PE1/~{DSACK}1 (io), 89 PE0/~{DSACK}0 (io), 90 ADDR0 (out), 91 DATA15 (io), 92 DATA14 (io), 93 DATA13 (io), 94 DATA12 (io), 97 DATA11 (io), 98 DATA10 (io), 99 DATA9 (io), 100 DATA8 (io), 102 DATA7 (io), 103 DATA6 (io), 104 DATA5 (io), 105 DATA4 (io), 108 DATA3 (io), 109 DATA2 (io), 110 DATA1 (io), 111 DATA0 (io), 112 ~{CSBOOT} (hiz), 113 ~{BR}/~{CS}0 (io), 114 ~{BG}/~{CS}1 (hiz), 115 ~{BGACK}/~{CS}2 (io), 118 PC0/FC0/~{CS}3 (out), 119 PC1/FC1/~{CS}4 (out), 120 PC2/FC2/~{CS}5 (out), 121 PC3/ADDR19/~{CS}6 (out), 122 PC4/ADDR20/~{CS}7 (out), 123 PC5/ADDR21/~{CS}8 (out), 124 PC6/ADDR22/~{CS}9 (out), 125 ADDR23/~{CS1}0 (out), 128 T2CLK (in), 129 TPUCH15 (io), 130 TPUCH14 (io), 131 TPUCH13 (io), 132 TPUCH12 (io)
part B pins: 1 VDD (power), 2 VSS (power), 7 VDD (power), 8 VSS (power), 17 VSS (power), 18 VDD (power), 28 VDD (power), 29 VSS (power), 34 VSS (power), 39 VDD (power), 40 VSS (power), 50 VDD (power), 51 VSS (power), 59 VSS (power), 63 VDD (power), 65 VDD (power), 67 VSS (power), 83 VSS (power), 84 VDD (power), 95 VSS (power), 96 VDD (power), 101 VSS (power), 106 VSS (power), 107 VDD (power), 116 VDD (power), 117 VSS (power), 126 VDD (power), 127 VSS (power)

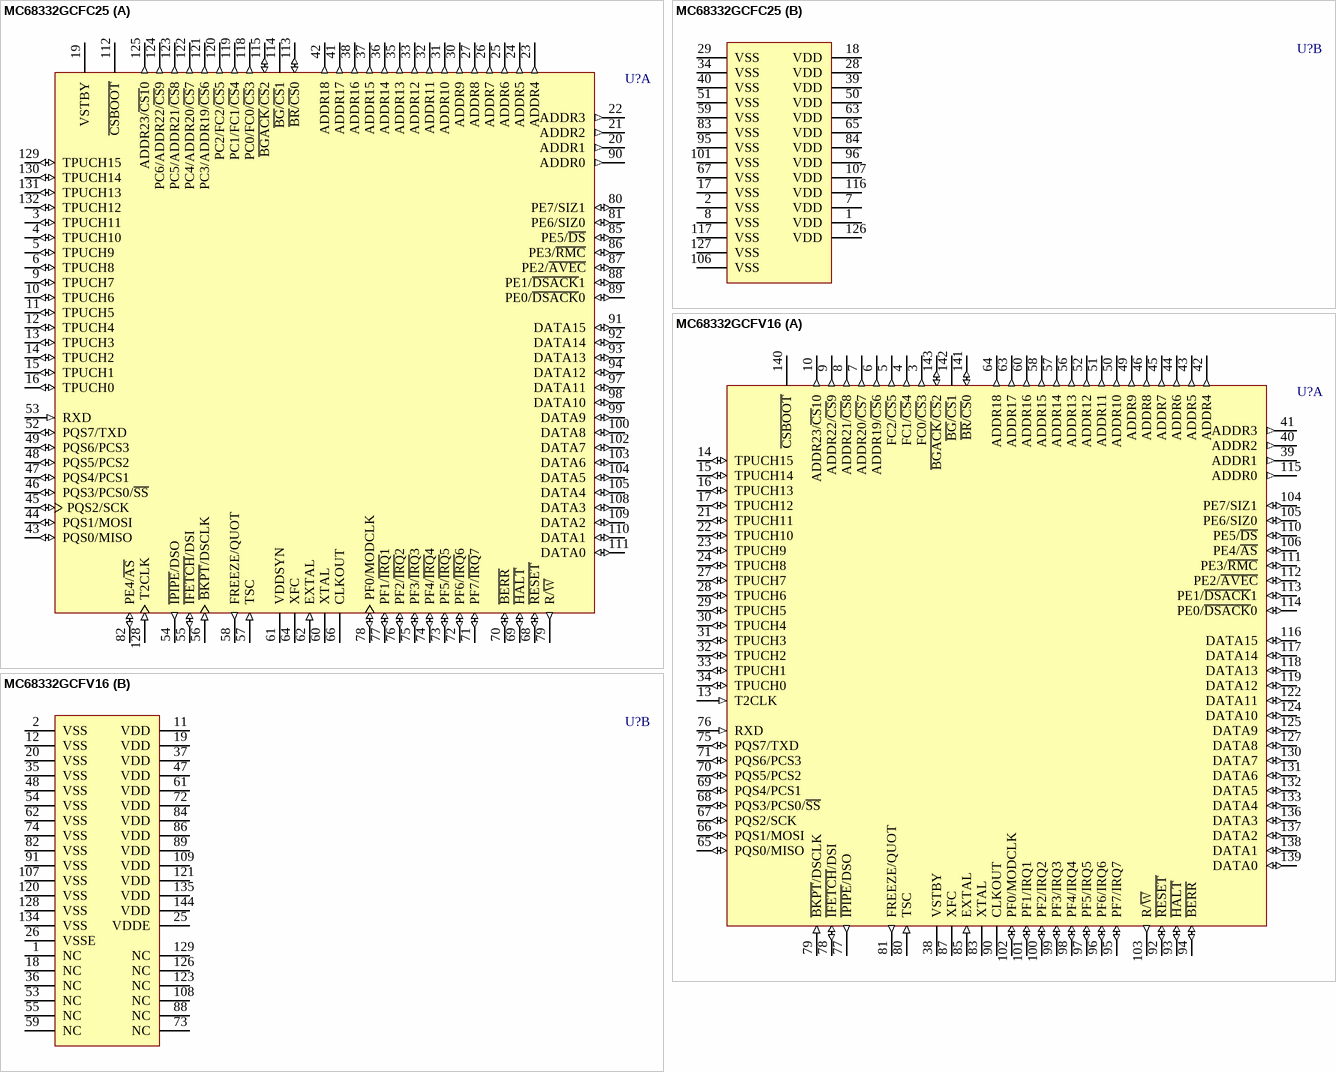
[diagram p121: symbols MC68332GCFC25 to MC68332GCFV16]

## MC68332GCFC25
designator U?
32-Bit Microcontroller; Published: 21-Mar-2003; DatasheetVersion: Jan-1996; PackageVersion: 1997; PackageReference: 831A-01; Publisher: Altium Limited; PackageDescription: PQFP; 132 Leads; Body 24 x 24 mm; Pitch 0.635 mm; ComponentLink1Description: Manufacturer Link; ComponentLink1URL: http://www.freescale.com/; ComponentLink2Description: Datasheet; ComponentLink2URL: http://www.freescale.com/files/microcontrollers/doc/user_guide/MC68332UM.pdf
footprint 831A-01 (PQFP; 132 Leads; Body 24 x 24 mm; Pitch 0.635 mm)
part A pins: 3 TPUCH11 (io), 4 TPUCH10 (io), 5 TPUCH9 (io), 6 TPUCH8 (io), 9 TPUCH7 (io), 10 TPUCH6 (io), 11 TPUCH5 (io), 12 TPUCH4 (io), 13 TPUCH3 (io), 14 TPUCH2 (io), 15 TPUCH1 (io), 16 TPUCH0 (io), 19 VSTBY (power), 20 ADDR1 (out), 21 ADDR2 (out), 22 ADDR3 (out), 23 ADDR4 (out), 24 ADDR5 (out), 25 ADDR6 (out), 26 ADDR7 (out), 27 ADDR8 (out), 30 ADDR9 (out), 31 ADDR10 (out), 32 ADDR11 (out), 33 ADDR12 (out), 35 ADDR13 (out), 36 ADDR14 (out), 37 ADDR15 (out), 38 ADDR16 (out), 41 ADDR17 (out), 42 ADDR18 (out), 43 PQS0/MISO (io), 44 PQS1/MOSI (io), 45 PQS2/SCK (io), 46 PQS3/PCS0/~{SS} (io), 47 PQS4/PCS1 (io), 48 PQS5/PCS2 (io), 49 PQS6/PCS3 (io), 52 PQS7/TXD (io), 53 RXD (in), 54 ~{IPIPE}/DSO (out), 55 ~{IFETCH}/DSI (io), 56 ~{BKPT}/DSCLK (in), 57 TSC (in), 58 FREEZE/QUOT (out), 60 XTAL, 61 VDDSYN (power), 62 EXTAL (in), 64 XFC, 66 CLKOUT (hiz), 68 ~{RESET} (io), 69 ~{HALT} (io), 70 ~{BERR} (io), 71 PF7/~{IRQ}7 (io), 72 PF6/~{IRQ}6 (io), 73 PF5/~{IRQ}5 (io), 74 PF4/~{IRQ}4 (io), 75 PF3/~{IRQ}3 (io), 76 PF2/~{IRQ}2 (io), 77 PF1/~{IRQ}1 (io), 78 PF0/MODCLK (io), 79 R/~{W} (out), 80 PE7/SIZ1 (io), 81 PE6/SIZ0 (io), 82 PE4/~{AS} (io), 85 PE5/~{DS} (io), 86 PE3/~{RMC} (io), 87 PE2/~{AVEC} (io), 88 PE1/~{DSACK}1 (io), 89 PE0/~{DSACK}0 (io), 90 ADDR0 (out), 91 DATA15 (io), 92 DATA14 (io), 93 DATA13 (io), 94 DATA12 (io), 97 DATA11 (io), 98 DATA10 (io), 99 DATA9 (io), 100 DATA8 (io), 102 DATA7 (io), 103 DATA6 (io), 104 DATA5 (io), 105 DATA4 (io), 108 DATA3 (io), 109 DATA2 (io), 110 DATA1 (io), 111 DATA0 (io), 112 ~{CSBOOT} (hiz), 113 ~{BR}/~{CS}0 (io), 114 ~{BG}/~{CS}1 (hiz), 115 ~{BGACK}/~{CS}2 (io), 118 PC0/FC0/~{CS}3 (out), 119 PC1/FC1/~{CS}4 (out), 120 PC2/FC2/~{CS}5 (out), 121 PC3/ADDR19/~{CS}6 (out), 122 PC4/ADDR20/~{CS}7 (out), 123 PC5/ADDR21/~{CS}8 (out), 124 PC6/ADDR22/~{CS}9 (out), 125 ADDR23/~{CS1}0 (out), 128 T2CLK (in), 129 TPUCH15 (io), 130 TPUCH14 (io), 131 TPUCH13 (io), 132 TPUCH12 (io)
part B pins: 1 VDD (power), 2 VSS (power), 7 VDD (power), 8 VSS (power), 17 VSS (power), 18 VDD (power), 28 VDD (power), 29 VSS (power), 34 VSS (power), 39 VDD (power), 40 VSS (power), 50 VDD (power), 51 VSS (power), 59 VSS (power), 63 VDD (power), 65 VDD (power), 67 VSS (power), 83 VSS (power), 84 VDD (power), 95 VSS (power), 96 VDD (power), 101 VSS (power), 106 VSS (power), 107 VDD (power), 116 VDD (power), 117 VSS (power), 126 VDD (power), 127 VSS (power)

## MC68332GCFV16
designator U?
32-Bit Microcontroller; Published: 21-Mar-2003; LatestRevisionDate: 13-Apr-2006; LatestRevisionNote: IPC-7351 Footprint Added.; DatasheetVersion: Jan-1996; PackageVersion: Oct-2000; PackageReference: 863C-01; Publisher: Altium Limited; PackageDescription: 144-Pin Shrink Quad Flat Pack 0.5 mm Pitch; ComponentLink1Description: Manufacturer Link; ComponentLink1URL: http://www.freescale.com/; ComponentLink2Description: Datasheet; ComponentLink2URL: http://www.freescale.com/files/microcontrollers/doc/user_guide/MC68332UM.pdf
footprint 863C-01_N (Shrink QFP, 144-Leads, Body 20x20mm, Pitch 0.5mm, IPC Medium Density)
footprint 863C-01_L (Shrink QFP, 144-Leads, Body 20x20mm, Pitch 0.5mm, IPC High Density)
footprint 863C-01_M (Shrink QFP, 144-Leads, Body 20x20mm, Pitch 0.5mm, IPC Low Density)
3D model MC68332-863C-01 (144-Pin Shrink Quad Flat Pack 0.5 mm Pitch)
part A pins: 3 FC0/~{CS}3 (out), 4 FC1/~{CS}4 (out), 5 FC2/~{CS}5 (out), 6 ADDR19/~{CS}6 (out), 7 ADDR20/~{CS}7 (out), 8 ADDR21/~{CS}8 (out), 9 ADDR22/~{CS}9 (out), 10 ADDR23/~{CS}10 (out), 13 T2CLK (in), 14 TPUCH15 (io), 15 TPUCH14 (io), 16 TPUCH13 (io), 17 TPUCH12 (io), 21 TPUCH11 (io), 22 TPUCH10 (io), 23 TPUCH9 (io), 24 TPUCH8 (io), 27 TPUCH7 (io), 28 TPUCH6 (io), 29 TPUCH5 (io), 30 TPUCH4 (io), 31 TPUCH3 (io), 32 TPUCH2 (io), 33 TPUCH1 (io), 34 TPUCH0 (io), 38 VSTBY (power), 39 ADDR1 (out), 40 ADDR2 (out), 41 ADDR3 (out), 42 ADDR4 (out), 43 ADDR5 (out), 44 ADDR6 (out), 45 ADDR7 (out), 46 ADDR8 (out), 49 ADDR9 (out), 50 ADDR10 (out), 51 ADDR11 (out), 52 ADDR12 (out), 56 ADDR13 (out), 57 ADDR14 (out), 58 ADDR15 (out), 60 ADDR16 (out), 63 ADDR17 (out), 64 ADDR18 (out), 65 PQS0/MISO (io), 66 PQS1/MOSI (io), 67 PQS2/SCK (io), 68 PQS3/PCS0/~{SS} (io), 69 PQS4/PCS1 (io), 70 PQS5/PCS2 (io), 71 PQS6/PCS3 (io), 75 PQS7/TXD (io), 76 RXD (in), 77 ~{IPIPE}/DSO (out), 78 ~{IFETCH}/DSI (io), 79 ~{BKPT}/DSCLK (in), 80 TSC (in), 81 FREEZE/QUOT (out), 83 XTAL, 85 EXTAL (in), 87 XFC, 90 CLKOUT (hiz), 92 ~{RESET} (io), 93 ~{HALT} (io), 94 ~{BERR} (io), 95 PF7/IRQ7 (io), 96 PF6/IRQ6 (io), 97 PF5/IRQ5 (io), 98 PF4/IRQ4 (io), 99 PF3/IRQ3 (io), 100 PF2/IRQ2 (io), 101 PF1/IRQ1 (io), 102 PF0/MODCLK (io), 103 R/~{W} (out), 104 PE7/SIZ1 (io), 105 PE6/SIZ0 (io), 106 PE4/~{AS} (io), 110 PE5/~{DS} (io), 111 PE3/~{RMC} (io), 112 PE2/~{AVEC} (io), 113 PE1/~{DSACK}1 (io), 114 PE0/~{DSACK}0 (io), 115 ADDR0 (out), 116 DATA15 (io), 117 DATA14 (io), 118 DATA13 (io), 119 DATA12 (io), 122 DATA11 (io), 124 DATA10 (io), 125 DATA9 (io), 127 DATA8 (io), 130 DATA7 (io), 131 DATA6 (io), 132 DATA5 (io), 133 DATA4 (io), 136 DATA3 (io), 137 DATA2 (io), 138 DATA1 (io), 139 DATA0 (io), 140 ~{CSBOOT} (hiz), 141 ~{BR}/~{CS}0 (io), 142 ~{BG}/~{CS}1 (hiz), 143 ~{BGACK}/~{CS}2 (io)
part B pins: 1 NC, 2 VSS (power), 11 VDD (power), 12 VSS (power), 18 NC, 19 VDD (power), 20 VSS (power), 25 VDDE (power), 26 VSSE (power), 35 VSS (power), 36 NC, 37 VDD (power), 47 VDD (power), 48 VSS (power), 53 NC, 54 VSS (power), 55 NC, 59 NC, 61 VDD (power), 62 VSS (power), 72 VDD (power), 73 NC, 74 VSS (power), 82 VSS (power), 84 VDD (power), 86 VDD (power), 88 NC, 89 VDD (power), 91 VSS (power), 107 VSS (power), 108 NC, 109 VDD (power), 120 VSS (power), 121 VDD (power), 123 NC, 126 NC, 128 VSS (power), 129 NC, 134 VSS (power), 135 VDD (power), 144 VDD (power)

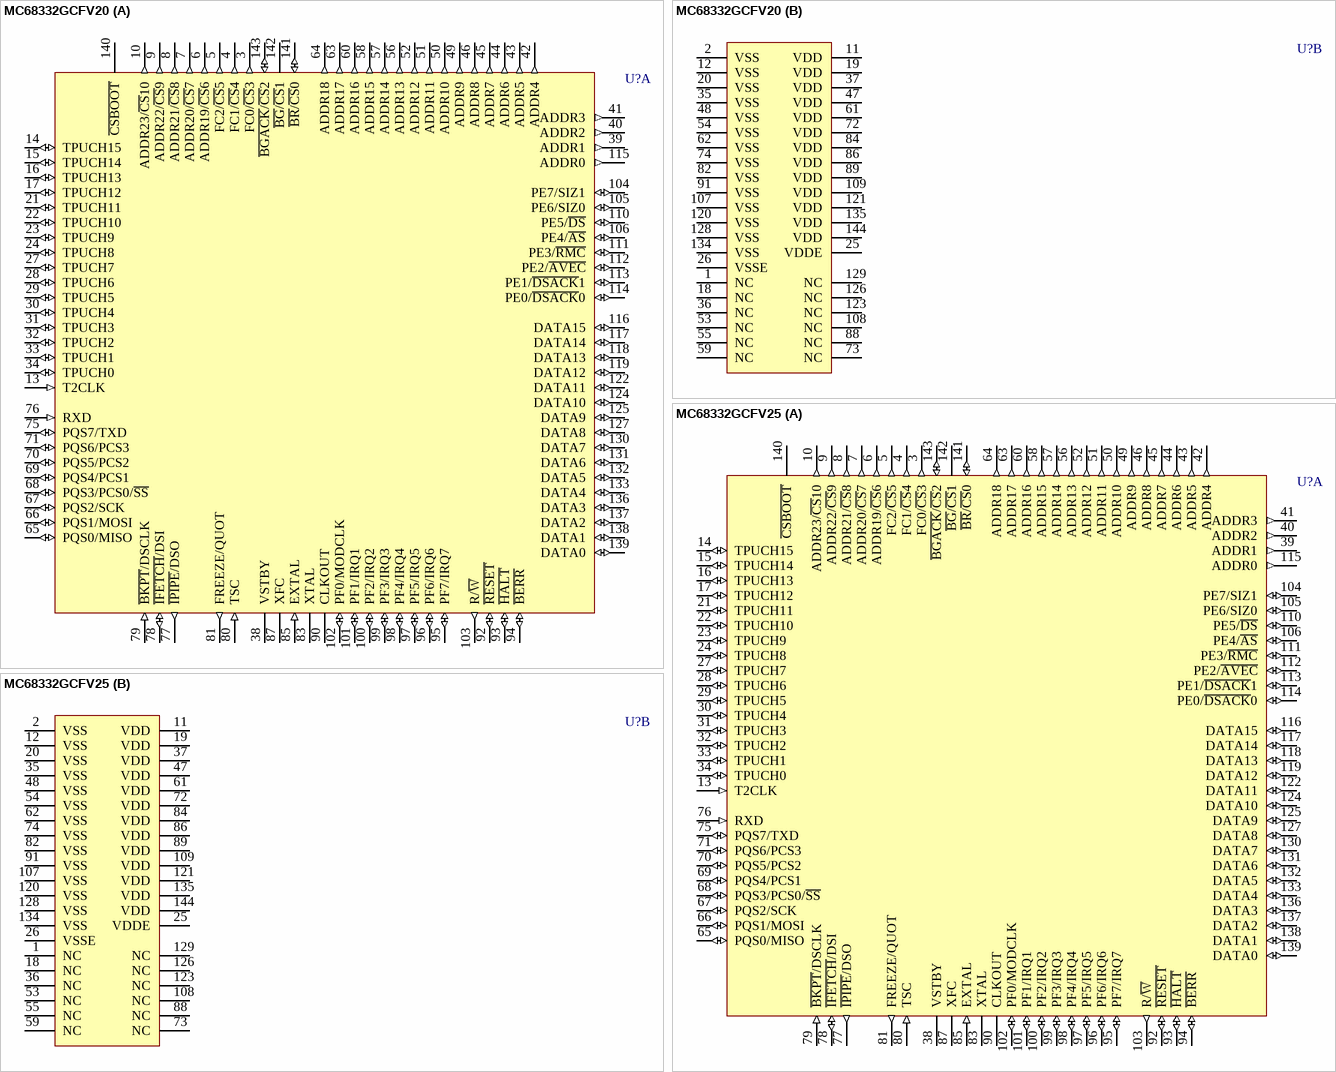
[diagram p122: symbols MC68332GCFV20 to MC68332GCFV25]

## MC68332GCFV20
designator U?
32-Bit Microcontroller; Published: 21-Mar-2003; LatestRevisionDate: 13-Apr-2006; LatestRevisionNote: IPC-7351 Footprint Added.; DatasheetVersion: Jan-1996; PackageVersion: Oct-2000; PackageReference: 863C-01; Publisher: Altium Limited; PackageDescription: 144-Pin Shrink Quad Flat Pack 0.5 mm Pitch; ComponentLink1Description: Manufacturer Link; ComponentLink1URL: http://www.freescale.com/; ComponentLink2Description: Datasheet; ComponentLink2URL: http://www.freescale.com/files/microcontrollers/doc/user_guide/MC68332UM.pdf
footprint 863C-01_N (Shrink QFP, 144-Leads, Body 20x20mm, Pitch 0.5mm, IPC Medium Density)
footprint 863C-01_L (Shrink QFP, 144-Leads, Body 20x20mm, Pitch 0.5mm, IPC High Density)
footprint 863C-01_M (Shrink QFP, 144-Leads, Body 20x20mm, Pitch 0.5mm, IPC Low Density)
3D model MC68332-863C-01 (144-Pin Shrink Quad Flat Pack 0.5 mm Pitch)
part A pins: 3 FC0/~{CS}3 (out), 4 FC1/~{CS}4 (out), 5 FC2/~{CS}5 (out), 6 ADDR19/~{CS}6 (out), 7 ADDR20/~{CS}7 (out), 8 ADDR21/~{CS}8 (out), 9 ADDR22/~{CS}9 (out), 10 ADDR23/~{CS}10 (out), 13 T2CLK (in), 14 TPUCH15 (io), 15 TPUCH14 (io), 16 TPUCH13 (io), 17 TPUCH12 (io), 21 TPUCH11 (io), 22 TPUCH10 (io), 23 TPUCH9 (io), 24 TPUCH8 (io), 27 TPUCH7 (io), 28 TPUCH6 (io), 29 TPUCH5 (io), 30 TPUCH4 (io), 31 TPUCH3 (io), 32 TPUCH2 (io), 33 TPUCH1 (io), 34 TPUCH0 (io), 38 VSTBY (power), 39 ADDR1 (out), 40 ADDR2 (out), 41 ADDR3 (out), 42 ADDR4 (out), 43 ADDR5 (out), 44 ADDR6 (out), 45 ADDR7 (out), 46 ADDR8 (out), 49 ADDR9 (out), 50 ADDR10 (out), 51 ADDR11 (out), 52 ADDR12 (out), 56 ADDR13 (out), 57 ADDR14 (out), 58 ADDR15 (out), 60 ADDR16 (out), 63 ADDR17 (out), 64 ADDR18 (out), 65 PQS0/MISO (io), 66 PQS1/MOSI (io), 67 PQS2/SCK (io), 68 PQS3/PCS0/~{SS} (io), 69 PQS4/PCS1 (io), 70 PQS5/PCS2 (io), 71 PQS6/PCS3 (io), 75 PQS7/TXD (io), 76 RXD (in), 77 ~{IPIPE}/DSO (out), 78 ~{IFETCH}/DSI (io), 79 ~{BKPT}/DSCLK (in), 80 TSC (in), 81 FREEZE/QUOT (out), 83 XTAL, 85 EXTAL (in), 87 XFC, 90 CLKOUT (hiz), 92 ~{RESET} (io), 93 ~{HALT} (io), 94 ~{BERR} (io), 95 PF7/IRQ7 (io), 96 PF6/IRQ6 (io), 97 PF5/IRQ5 (io), 98 PF4/IRQ4 (io), 99 PF3/IRQ3 (io), 100 PF2/IRQ2 (io), 101 PF1/IRQ1 (io), 102 PF0/MODCLK (io), 103 R/~{W} (out), 104 PE7/SIZ1 (io), 105 PE6/SIZ0 (io), 106 PE4/~{AS} (io), 110 PE5/~{DS} (io), 111 PE3/~{RMC} (io), 112 PE2/~{AVEC} (io), 113 PE1/~{DSACK}1 (io), 114 PE0/~{DSACK}0 (io), 115 ADDR0 (out), 116 DATA15 (io), 117 DATA14 (io), 118 DATA13 (io), 119 DATA12 (io), 122 DATA11 (io), 124 DATA10 (io), 125 DATA9 (io), 127 DATA8 (io), 130 DATA7 (io), 131 DATA6 (io), 132 DATA5 (io), 133 DATA4 (io), 136 DATA3 (io), 137 DATA2 (io), 138 DATA1 (io), 139 DATA0 (io), 140 ~{CSBOOT} (hiz), 141 ~{BR}/~{CS}0 (io), 142 ~{BG}/~{CS}1 (hiz), 143 ~{BGACK}/~{CS}2 (io)
part B pins: 1 NC, 2 VSS (power), 11 VDD (power), 12 VSS (power), 18 NC, 19 VDD (power), 20 VSS (power), 25 VDDE (power), 26 VSSE (power), 35 VSS (power), 36 NC, 37 VDD (power), 47 VDD (power), 48 VSS (power), 53 NC, 54 VSS (power), 55 NC, 59 NC, 61 VDD (power), 62 VSS (power), 72 VDD (power), 73 NC, 74 VSS (power), 82 VSS (power), 84 VDD (power), 86 VDD (power), 88 NC, 89 VDD (power), 91 VSS (power), 107 VSS (power), 108 NC, 109 VDD (power), 120 VSS (power), 121 VDD (power), 123 NC, 126 NC, 128 VSS (power), 129 NC, 134 VSS (power), 135 VDD (power), 144 VDD (power)